# Altium integrated library Xilinx XC4000.IntLib: 294 symbols (part 11 of 18)
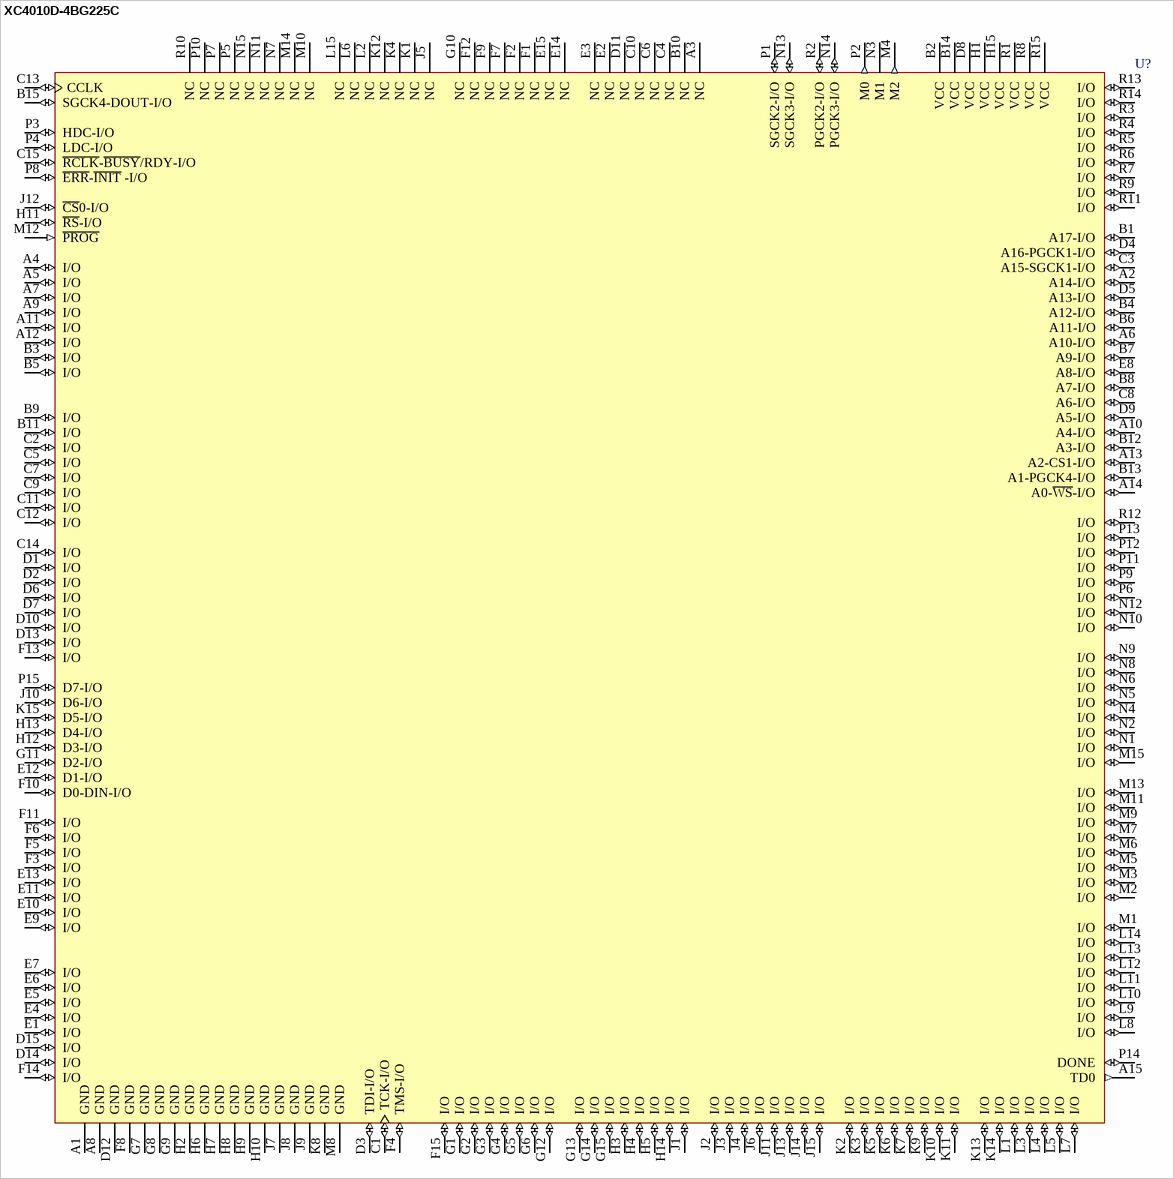
[diagram p239: symbol XC4010D-4BG225C]

## XC4010D-4BG225C
designator U?
Logic Cell Array, with 160 I/O Pins, 225-Pin BGA, Commercial Grade; PackageDocument: ver1.1, Apr-2001; Published: 8-Jun-2000; LatestRevisionDate: 17-Jul-2002; LatestRevisionNote: Re-released for DXP Platform.; DatasheetDocument: 1994; PackageReference: BG225; Publisher: Altium Limited
footprint BG225 (225-Ball Plastic Ball Grid Array (BG225))
pins: A1 GND (power), A2 A14-I/O (io), A3 NC, A4 I/O (io), A5 I/O (io), A6 A10-I/O (io), A7 I/O (io), A8 GND (power), A9 I/O (io), A10 A4-I/O (io), A11 I/O (io), A12 I/O (io), A13 A2-CS1-I/O (io), A14 A0-~{WS}-I/O (io), A15 TD0 (out), B1 A17-I/O (io), B2 VCC (power), B3 I/O (io), B4 A12-I/O (io), B5 I/O (io), B6 A11-I/O (io), B7 A9-I/O (io), B8 A7-I/O (io), B9 I/O (io), B10 NC, B11 I/O (io), B12 A3-I/O (io), B13 A1-PGCK4-I/O (io), B14 VCC (power), B15 SGCK4-DOUT-I/O (io), C1 TCK-I/O (io), C2 I/O (io), C3 A15-SGCK1-I/O (io), C4 NC, C5 I/O (io), C6 NC, C7 I/O (io), C8 A6-I/O (io), C9 I/O (io), C10 NC, C11 I/O (io), C12 I/O (io), C13 CCLK (io), C14 I/O (io), C15 ~{RCLK}-~{BUSY}/RDY-I/O (io), D1 I/O (io), D2 I/O (io), D3 TDI-I/O (io), D4 A16-PGCK1-I/O (io), D5 A13-I/O (io), D6 I/O (io), D7 I/O (io), D8 VCC (power), D9 A5-I/O (io), D10 I/O (io), D11 NC, D12 GND (power), D13 I/O (io), D14 I/O (io), D15 I/O (io), E1 I/O (io), E2 NC, E3 NC, E4 I/O (io), E5 I/O (io), E6 I/O (io), E7 I/O (io), E8 A8-I/O (io), E9 I/O (io), E10 I/O (io), E11 I/O (io), E12 D1-I/O (io), E13 I/O (io), E14 NC, E15 NC, F1 NC, F2 NC, F3 I/O (io), F4 TMS-I/O (io), F5 I/O (io), F6 I/O (io), F7 NC, F8 GND (power), F9 NC, F10 D0-DIN-I/O (io), F11 I/O (io), F12 NC, F13 I/O (io), F14 I/O (io), F15 I/O (io), G1 I/O (io), G2 I/O (io), G3 I/O (io), G4 I/O (io), G5 I/O (io), G6 I/O (io), G7 GND (power), G8 GND (power), G9 GND (power), G10 NC, G11 D2-I/O (io), G12 I/O (io), G13 I/O (io), G14 I/O (io), G15 I/O (io), H1 VCC (power), H2 GND (power), H3 I/O (io), H4 I/O (io), H5 I/O (io), H6 GND (power), H7 GND (power), H8 GND (power), H9 GND (power), H10 GND (power), H11 ~{RS}-I/O (io), H12 D3-I/O (io), H13 D4-I/O (io), H14 I/O (io), H15 VCC (power), J1 I/O (io), J2 I/O (io), J3 I/O (io), J4 I/O (io), J5 NC, J6 I/O (io), J7 GND (power), J8 GND (power), J9 GND (power), J10 D6-I/O (io), J11 I/O (io), J12 ~{CS}0-I/O (io), J13 I/O (io), J14 I/O (io), J15 I/O (io), K1 NC, K2 I/O (io), K3 I/O (io), K4 NC, K5 I/O (io), K6 I/O (io), K7 I/O (io), K8 GND (power), K9 I/O (io), K10 I/O (io), K11 I/O (io), K12 NC, K13 I/O (io), K14 I/O (io), K15 D5-I/O (io), L1 I/O (io), L2 NC, L3 I/O (io), L4 I/O (io), L5 I/O (io), L6 NC, L7 I/O (io), L8 I/O (io), L9 I/O (io), L10 I/O (io), L11 I/O (io), L12 I/O (io), L13 I/O (io), L14 I/O (io), L15 NC, M1 I/O (io), M2 I/O (io), M3 I/O (io), M4 M2 (out), M5 I/O (io), M6 I/O (io), M7 I/O (io), M8 GND (power), M9 I/O (io), M10 NC, M11 I/O (io), M12 ~{PROG} (in), M13 I/O (io), M14 NC, M15 I/O (io), N1 I/O (io), N2 I/O (io), N3 M1 (hiz), N4 I/O (io), N5 I/O (io), N6 I/O (io), N7 NC, N8 I/O (io), N9 I/O (io), N10 I/O (io), N11 NC, N12 I/O (io), N13 SGCK3-I/O (io), N14 PGCK3-I/O (io), N15 NC, P1 SGCK2-I/O (io), P2 M0 (out), P3 HDC-I/O (io), P4 LDC-I/O (io), P5 NC, P6 I/O (io), P7 NC, P8 ~{ERR}-~{INIT} -I/O (io), P9 I/O (io), P10 NC, P11 I/O (io), P12 I/O (io), P13 I/O (io), P14 DONE (io), P15 D7-I/O (io), R1 VCC (power), R2 PGCK2-I/O (io), R3 I/O (io), R4 I/O (io), R5 I/O (io), R6 I/O (io), R7 I/O (io), R8 VCC (power), R9 I/O (io), R10 NC, R11 I/O (io), R12 I/O (io), R13 I/O (io), R14 I/O (io), R15 VCC (power)

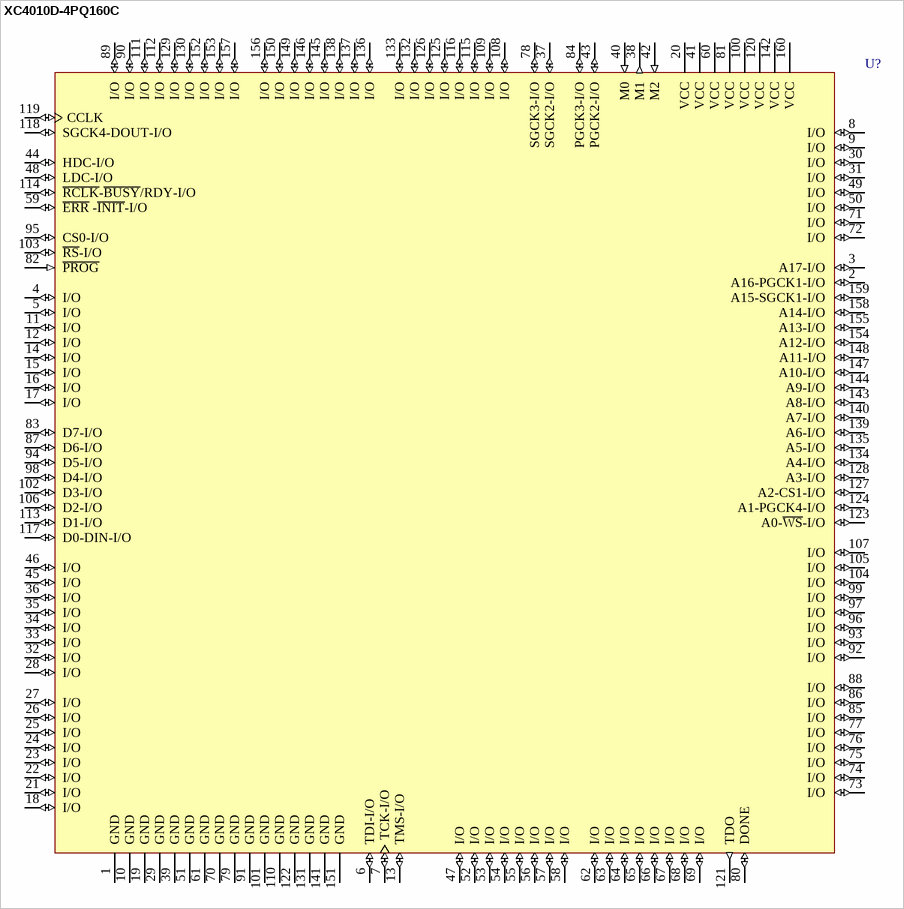
[diagram p131: symbol XC4010D-4PQ160C]

## XC4010D-4PQ160C
designator U?
Logic Cell Array, with 129 I/O Pins, 160-Pin PQFP, Commercial Grade; PackageDocument: ver1.1, Oct-2002; Published: 8-Jun-2000; LatestRevisionDate: 17-Jul-2002; LatestRevisionNote: PCB footprint, 'QFP28x28-G160/D28N' replaced; Re-released for DXP Platform.; DatasheetDocument: 1994; PackageReference: PQ160; Publisher: Altium Limited; Code_JEDEC: MS-022-DD1
footprint PQ160 (160-Pin Plastic Quad Flat Pack (PQ160))
pins: 1 GND (power), 2 A16-PGCK1-I/O (io), 3 A17-I/O (io), 4 I/O (io), 5 I/O (io), 6 TDI-I/O (io), 7 TCK-I/O (io), 8 I/O (io), 9 I/O (io), 10 GND (power), 11 I/O (io), 12 I/O (io), 13 TMS-I/O (io), 14 I/O (io), 15 I/O (io), 16 I/O (io), 17 I/O (io), 18 I/O (io), 19 GND (power), 20 VCC (power), 21 I/O (io), 22 I/O (io), 23 I/O (io), 24 I/O (io), 25 I/O (io), 26 I/O (io), 27 I/O (io), 28 I/O (io), 29 GND (power), 30 I/O (io), 31 I/O (io), 32 I/O (io), 33 I/O (io), 34 I/O (io), 35 I/O (io), 36 I/O (io), 37 SGCK2-I/O (io), 38 M1 (out), 39 GND (power), 40 M0 (in), 41 VCC (power), 42 M2 (in), 43 PGCK2-I/O (io), 44 HDC-I/O (io), 45 I/O (io), 46 I/O (io), 47 I/O (io), 48 LDC-I/O (io), 49 I/O (io), 50 I/O (io), 51 GND (power), 52 I/O (io), 53 I/O (io), 54 I/O (io), 55 I/O (io), 56 I/O (io), 57 I/O (io), 58 I/O (io), 59 ~{ERR} -~{INIT}-I/O (io), 60 VCC (power), 61 GND (power), 62 I/O (io), 63 I/O (io), 64 I/O (io), 65 I/O (io), 66 I/O (io), 67 I/O (io), 68 I/O (io), 69 I/O (io), 70 GND (power), 71 I/O (io), 72 I/O (io), 73 I/O (io), 74 I/O (io), 75 I/O (io), 76 I/O (io), 77 I/O (io), 78 SGCK3-I/O (io), 79 GND (power), 80 DONE (io), 81 VCC (power), 82 ~{PROG} (in), 83 D7-I/O (io), 84 PGCK3-I/O (io), 85 I/O (io), 86 I/O (io), 87 D6-I/O (io), 88 I/O (io), 89 I/O (io), 90 I/O (io), 91 GND (power), 92 I/O (io), 93 I/O (io), 94 D5-I/O (io), 95 CS0-I/O (io), 96 I/O (io), 97 I/O (io), 98 D4-I/O (io), 99 I/O (io), 100 VCC (power), 101 GND (power), 102 D3-I/O (io), 103 ~{RS}-I/O (io), 104 I/O (io), 105 I/O (io), 106 D2-I/O (io), 107 I/O (io), 108 I/O (io), 109 I/O (io), 110 GND (power), 111 I/O (io), 112 I/O (io), 113 D1-I/O (io), 114 ~{RCLK}-~{BUSY}/RDY-I/O (io), 115 I/O (io), 116 I/O (io), 117 D0-DIN-I/O (io), 118 SGCK4-DOUT-I/O (io), 119 CCLK (io), 120 VCC (power), 121 TDO (out), 122 GND (power), 123 A0-~{WS}-I/O (io), 124 A1-PGCK4-I/O (io), 125 I/O (io), 126 I/O (io), 127 A2-CS1-I/O (io), 128 A3-I/O (io), 129 I/O (io), 130 I/O (io), 131 GND (power), 132 I/O (io), 133 I/O (io), 134 A4-I/O (io), 135 A5-I/O (io), 136 I/O (io), 137 I/O (io), 138 I/O (io), 139 A6-I/O (io), 140 A7-I/O (io), 141 GND (power), 142 VCC (power), 143 A8-I/O (io), 144 A9-I/O (io), 145 I/O (io), 146 I/O (io), 147 A10-I/O (io), 148 A11-I/O (io), 149 I/O (io), 150 I/O (io), 151 GND (power), 152 I/O (io), 153 I/O (io), 154 A12-I/O (io), 155 A13-I/O (io), 156 I/O (io), 157 I/O (io), 158 A14-I/O (io), 159 A15-SGCK1-I/O (io), 160 VCC (power)

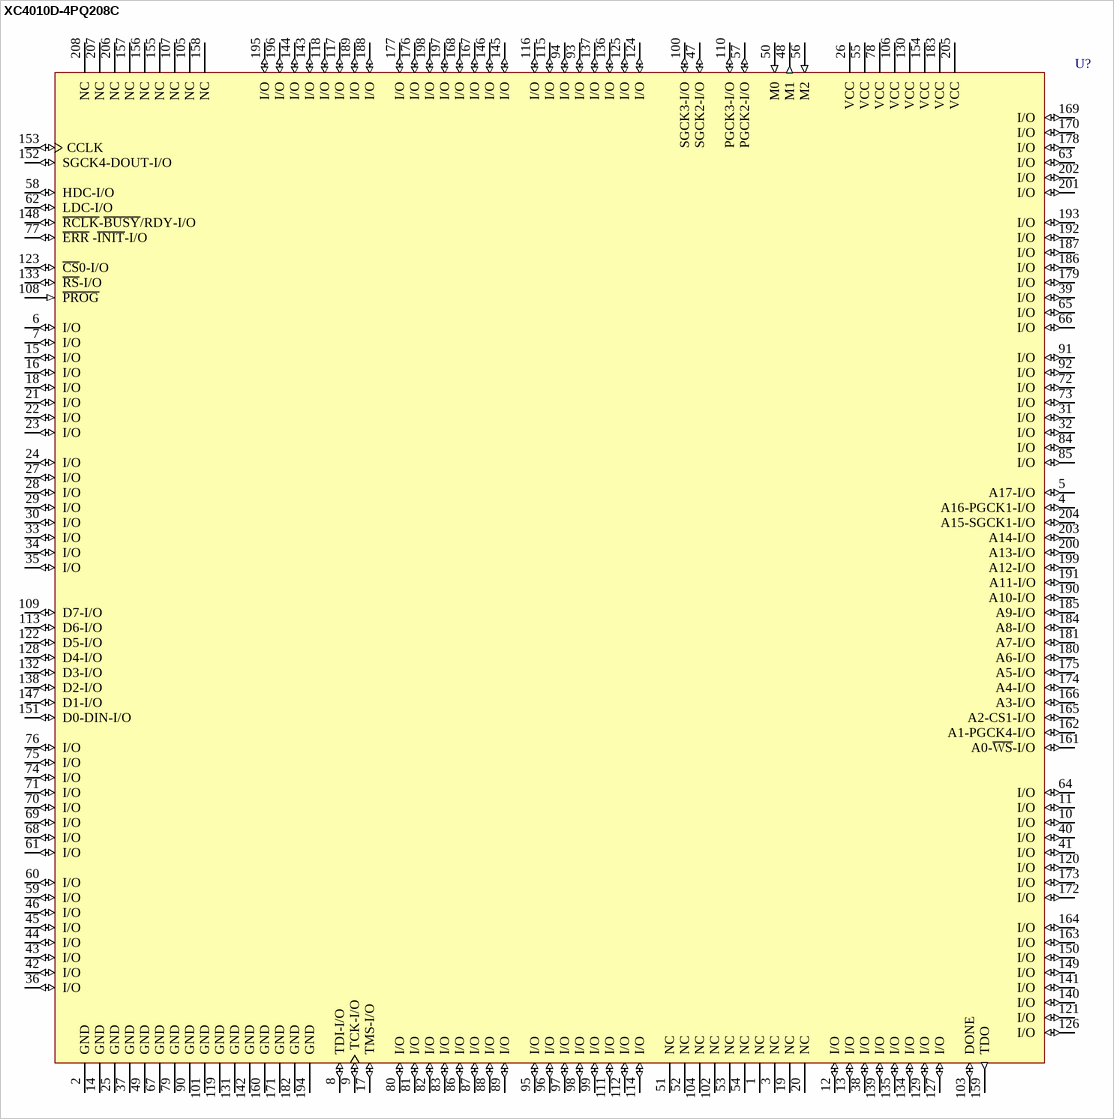
[diagram p132: symbol XC4010D-4PQ208C]

## XC4010D-4PQ208C
designator U?
Logic Cell Array, with 158 I/O Pins, 208-Pin PQFP, Commercial Grade; PackageDocument: ver1.1, Oct-2002; Published: 8-Jun-2000; LatestRevisionDate: 17-Sep-2003; LatestRevisionNote: PCB Footprint dimensions updated; DatasheetDocument: 1994; PackageReference: PQ208; Publisher: Altium Limited; Code_JEDEC: MS-029-FA-1
footprint PQ208 (208-Pin Plastic Quad Flat Pack (PQ208))
pins: 1 NC, 2 GND (power), 3 NC, 4 A16-PGCK1-I/O (io), 5 A17-I/O (io), 6 I/O (io), 7 I/O (io), 8 TDI-I/O (io), 9 TCK-I/O (io), 10 I/O (io), 11 I/O (io), 12 I/O (io), 13 I/O (io), 14 GND (power), 15 I/O (io), 16 I/O (io), 17 TMS-I/O (io), 18 I/O (io), 19 NC, 20 NC, 21 I/O (io), 22 I/O (io), 23 I/O (io), 24 I/O (io), 25 GND (power), 26 VCC (power), 27 I/O (io), 28 I/O (io), 29 I/O (io), 30 I/O (io), 31 I/O (io), 32 I/O (io), 33 I/O (io), 34 I/O (io), 35 I/O (io), 36 I/O (io), 37 GND (power), 38 I/O (io), 39 I/O (io), 40 I/O (io), 41 I/O (io), 42 I/O (io), 43 I/O (io), 44 I/O (io), 45 I/O (io), 46 I/O (io), 47 SGCK2-I/O (io), 48 M1 (out), 49 GND (power), 50 M0 (in), 51 NC, 52 NC, 53 NC, 54 NC, 55 VCC (power), 56 M2 (in), 57 PGCK2-I/O (io), 58 HDC-I/O (io), 59 I/O (io), 60 I/O (io), 61 I/O (io), 62 LDC-I/O (io), 63 I/O (io), 64 I/O (io), 65 I/O (io), 66 I/O (io), 67 GND (power), 68 I/O (io), 69 I/O (io), 70 I/O (io), 71 I/O (io), 72 I/O (io), 73 I/O (io), 74 I/O (io), 75 I/O (io), 76 I/O (io), 77 ~{ERR} -~{INIT}-I/O (io), 78 VCC (power), 79 GND (power), 80 I/O (io), 81 I/O (io), 82 I/O (io), 83 I/O (io), 84 I/O (io), 85 I/O (io), 86 I/O (io), 87 I/O (io), 88 I/O (io), 89 I/O (io), 90 GND (power), 91 I/O (io), 92 I/O (io), 93 I/O (io), 94 I/O (io), 95 I/O (io), 96 I/O (io), 97 I/O (io), 98 I/O (io), 99 I/O (io), 100 SGCK3-I/O (io), 101 GND (power), 102 NC, 103 DONE (io), 104 NC, 105 NC, 106 VCC (power), 107 NC, 108 ~{PROG} (in), 109 D7-I/O (io), 110 PGCK3-I/O (io), 111 I/O (io), 112 I/O (io), 113 D6-I/O (io), 114 I/O (io), 115 I/O (io), 116 I/O (io), 117 I/O (io), 118 I/O (io), 119 GND (power), 120 I/O (io), 121 I/O (io), 122 D5-I/O (io), 123 ~{CS}0-I/O (io), 124 I/O (io), 125 I/O (io), 126 I/O (io), 127 I/O (io), 128 D4-I/O (io), 129 I/O (io), 130 VCC (power), 131 GND (power), 132 D3-I/O (io), 133 ~{RS}-I/O (io), 134 I/O (io), 135 I/O (io), 136 I/O (io), 137 I/O (io), 138 D2-I/O (io), 139 I/O (io), 140 I/O (io), 141 I/O (io), 142 GND (power), 143 I/O (io), 144 I/O (io), 145 I/O (io), 146 I/O (io), 147 D1-I/O (io), 148 ~{RCLK}-~{BUSY}/RDY-I/O (io), 149 I/O (io), 150 I/O (io), 151 D0-DIN-I/O (io), 152 SGCK4-DOUT-I/O (io), 153 CCLK (io), 154 VCC (power), 155 NC, 156 NC, 157 NC, 158 NC, 159 TDO (out), 160 GND (power), 161 A0-~{WS}-I/O (io), 162 A1-PGCK4-I/O (io), 163 I/O (io), 164 I/O (io), 165 A2-CS1-I/O (io), 166 A3-I/O (io), 167 I/O (io), 168 I/O (io), 169 I/O (io), 170 I/O (io), 171 GND (power), 172 I/O (io), 173 I/O (io), 174 A4-I/O (io), 175 A5-I/O (io), 176 I/O (io), 177 I/O (io), 178 I/O (io), 179 I/O (io), 180 A6-I/O (io), 181 A7-I/O (io), 182 GND (power), 183 VCC (power), 184 A8-I/O (io), 185 A9-I/O (io), 186 I/O (io), 187 I/O (io), 188 I/O (io), 189 I/O (io), 190 A10-I/O (io), 191 A11-I/O (io), 192 I/O (io), 193 I/O (io), 194 GND (power), 195 I/O (io), 196 I/O (io), 197 I/O (io), 198 I/O (io), 199 A12-I/O (io), 200 A13-I/O (io), 201 I/O (io), 202 I/O (io), 203 A14-I/O (io), 204 A15-SGCK1-I/O (io), 205 VCC (power), 206 NC, 207 NC, 208 NC

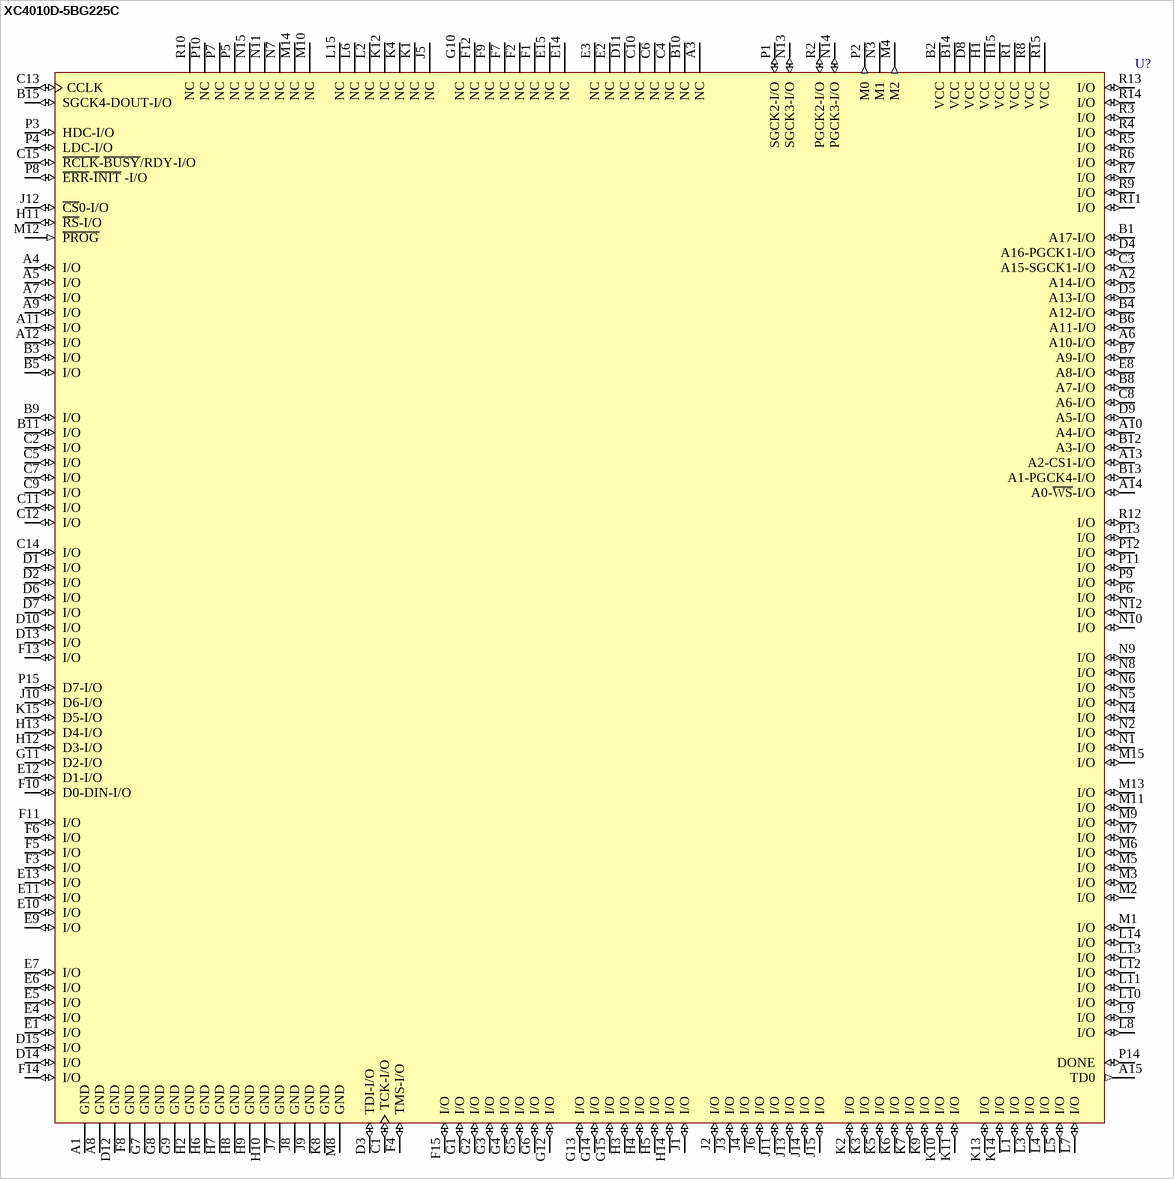
[diagram p133: symbol XC4010D-5BG225C]

## XC4010D-5BG225C
designator U?
Logic Cell Array, with 160 I/O Pins, 225-Pin BGA, Commercial Grade; PackageDocument: ver1.1, Apr-2001; Published: 8-Jun-2000; LatestRevisionDate: 17-Jul-2002; LatestRevisionNote: Re-released for DXP Platform.; DatasheetDocument: 1994; PackageReference: BG225; Publisher: Altium Limited
footprint BG225 (225-Ball Plastic Ball Grid Array (BG225))
pins: A1 GND (power), A2 A14-I/O (io), A3 NC, A4 I/O (io), A5 I/O (io), A6 A10-I/O (io), A7 I/O (io), A8 GND (power), A9 I/O (io), A10 A4-I/O (io), A11 I/O (io), A12 I/O (io), A13 A2-CS1-I/O (io), A14 A0-~{WS}-I/O (io), A15 TD0 (out), B1 A17-I/O (io), B2 VCC (power), B3 I/O (io), B4 A12-I/O (io), B5 I/O (io), B6 A11-I/O (io), B7 A9-I/O (io), B8 A7-I/O (io), B9 I/O (io), B10 NC, B11 I/O (io), B12 A3-I/O (io), B13 A1-PGCK4-I/O (io), B14 VCC (power), B15 SGCK4-DOUT-I/O (io), C1 TCK-I/O (io), C2 I/O (io), C3 A15-SGCK1-I/O (io), C4 NC, C5 I/O (io), C6 NC, C7 I/O (io), C8 A6-I/O (io), C9 I/O (io), C10 NC, C11 I/O (io), C12 I/O (io), C13 CCLK (io), C14 I/O (io), C15 ~{RCLK}-~{BUSY}/RDY-I/O (io), D1 I/O (io), D2 I/O (io), D3 TDI-I/O (io), D4 A16-PGCK1-I/O (io), D5 A13-I/O (io), D6 I/O (io), D7 I/O (io), D8 VCC (power), D9 A5-I/O (io), D10 I/O (io), D11 NC, D12 GND (power), D13 I/O (io), D14 I/O (io), D15 I/O (io), E1 I/O (io), E2 NC, E3 NC, E4 I/O (io), E5 I/O (io), E6 I/O (io), E7 I/O (io), E8 A8-I/O (io), E9 I/O (io), E10 I/O (io), E11 I/O (io), E12 D1-I/O (io), E13 I/O (io), E14 NC, E15 NC, F1 NC, F2 NC, F3 I/O (io), F4 TMS-I/O (io), F5 I/O (io), F6 I/O (io), F7 NC, F8 GND (power), F9 NC, F10 D0-DIN-I/O (io), F11 I/O (io), F12 NC, F13 I/O (io), F14 I/O (io), F15 I/O (io), G1 I/O (io), G2 I/O (io), G3 I/O (io), G4 I/O (io), G5 I/O (io), G6 I/O (io), G7 GND (power), G8 GND (power), G9 GND (power), G10 NC, G11 D2-I/O (io), G12 I/O (io), G13 I/O (io), G14 I/O (io), G15 I/O (io), H1 VCC (power), H2 GND (power), H3 I/O (io), H4 I/O (io), H5 I/O (io), H6 GND (power), H7 GND (power), H8 GND (power), H9 GND (power), H10 GND (power), H11 ~{RS}-I/O (io), H12 D3-I/O (io), H13 D4-I/O (io), H14 I/O (io), H15 VCC (power), J1 I/O (io), J2 I/O (io), J3 I/O (io), J4 I/O (io), J5 NC, J6 I/O (io), J7 GND (power), J8 GND (power), J9 GND (power), J10 D6-I/O (io), J11 I/O (io), J12 ~{CS}0-I/O (io), J13 I/O (io), J14 I/O (io), J15 I/O (io), K1 NC, K2 I/O (io), K3 I/O (io), K4 NC, K5 I/O (io), K6 I/O (io), K7 I/O (io), K8 GND (power), K9 I/O (io), K10 I/O (io), K11 I/O (io), K12 NC, K13 I/O (io), K14 I/O (io), K15 D5-I/O (io), L1 I/O (io), L2 NC, L3 I/O (io), L4 I/O (io), L5 I/O (io), L6 NC, L7 I/O (io), L8 I/O (io), L9 I/O (io), L10 I/O (io), L11 I/O (io), L12 I/O (io), L13 I/O (io), L14 I/O (io), L15 NC, M1 I/O (io), M2 I/O (io), M3 I/O (io), M4 M2 (out), M5 I/O (io), M6 I/O (io), M7 I/O (io), M8 GND (power), M9 I/O (io), M10 NC, M11 I/O (io), M12 ~{PROG} (in), M13 I/O (io), M14 NC, M15 I/O (io), N1 I/O (io), N2 I/O (io), N3 M1 (hiz), N4 I/O (io), N5 I/O (io), N6 I/O (io), N7 NC, N8 I/O (io), N9 I/O (io), N10 I/O (io), N11 NC, N12 I/O (io), N13 SGCK3-I/O (io), N14 PGCK3-I/O (io), N15 NC, P1 SGCK2-I/O (io), P2 M0 (out), P3 HDC-I/O (io), P4 LDC-I/O (io), P5 NC, P6 I/O (io), P7 NC, P8 ~{ERR}-~{INIT} -I/O (io), P9 I/O (io), P10 NC, P11 I/O (io), P12 I/O (io), P13 I/O (io), P14 DONE (io), P15 D7-I/O (io), R1 VCC (power), R2 PGCK2-I/O (io), R3 I/O (io), R4 I/O (io), R5 I/O (io), R6 I/O (io), R7 I/O (io), R8 VCC (power), R9 I/O (io), R10 NC, R11 I/O (io), R12 I/O (io), R13 I/O (io), R14 I/O (io), R15 VCC (power)

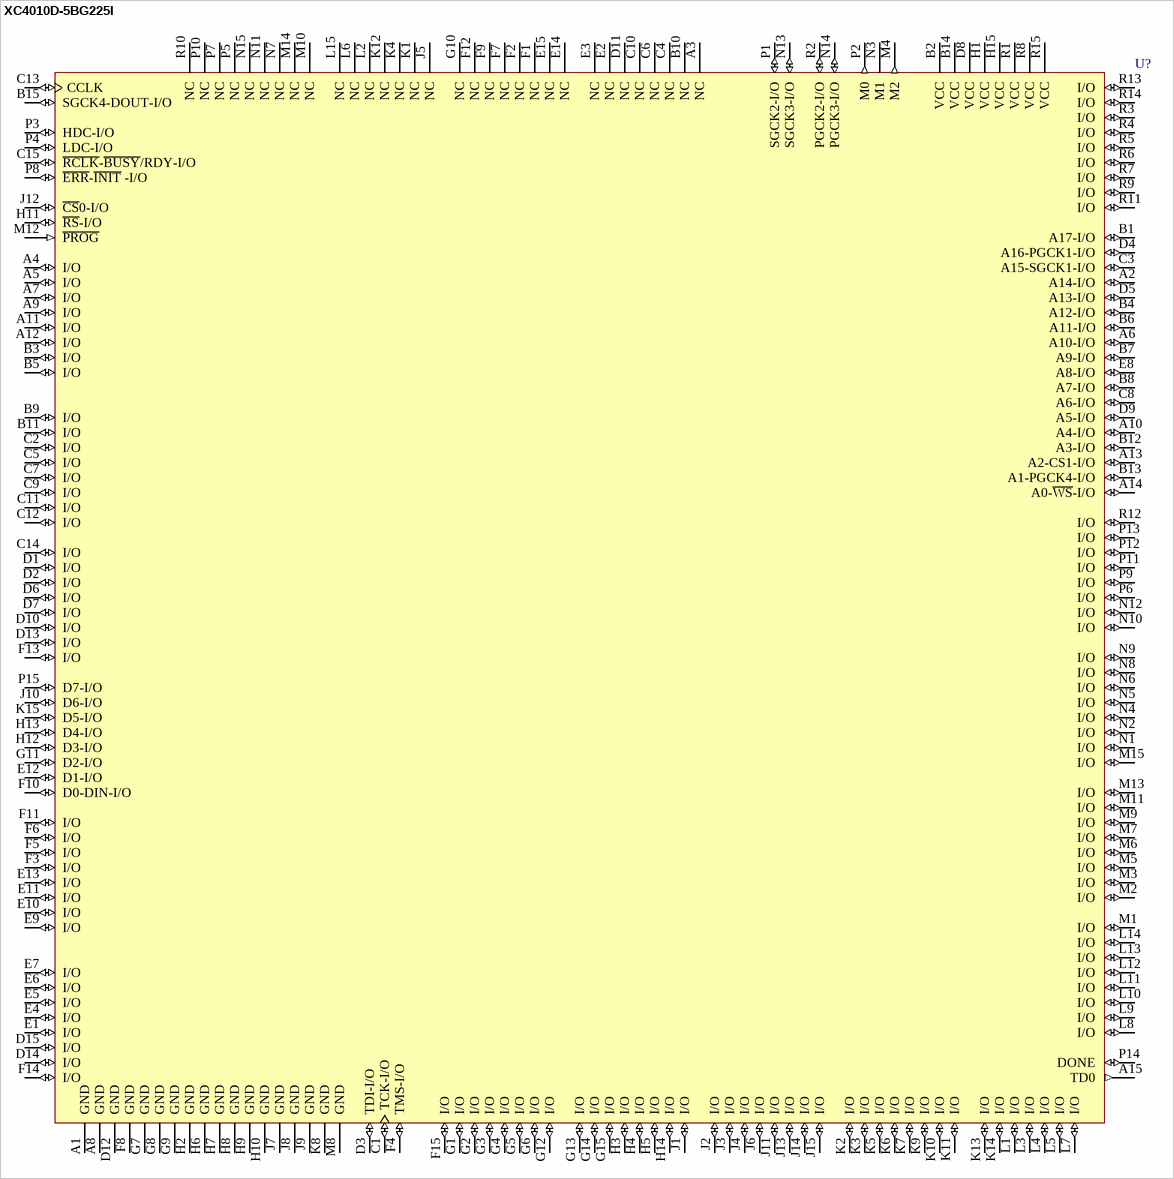
[diagram p134: symbol XC4010D-5BG225I]

## XC4010D-5BG225I
designator U?
Logic Cell Array, with 160 I/O Pins, 225-Pin BGA, Industrial Grade; PackageDocument: ver1.1, Apr-2001; Published: 8-Jun-2000; LatestRevisionDate: 17-Jul-2002; LatestRevisionNote: Re-released for DXP Platform.; DatasheetDocument: 1994; PackageReference: BG225; Publisher: Altium Limited
footprint BG225 (225-Ball Plastic Ball Grid Array (BG225))
pins: A1 GND (power), A2 A14-I/O (io), A3 NC, A4 I/O (io), A5 I/O (io), A6 A10-I/O (io), A7 I/O (io), A8 GND (power), A9 I/O (io), A10 A4-I/O (io), A11 I/O (io), A12 I/O (io), A13 A2-CS1-I/O (io), A14 A0-~{WS}-I/O (io), A15 TD0 (out), B1 A17-I/O (io), B2 VCC (power), B3 I/O (io), B4 A12-I/O (io), B5 I/O (io), B6 A11-I/O (io), B7 A9-I/O (io), B8 A7-I/O (io), B9 I/O (io), B10 NC, B11 I/O (io), B12 A3-I/O (io), B13 A1-PGCK4-I/O (io), B14 VCC (power), B15 SGCK4-DOUT-I/O (io), C1 TCK-I/O (io), C2 I/O (io), C3 A15-SGCK1-I/O (io), C4 NC, C5 I/O (io), C6 NC, C7 I/O (io), C8 A6-I/O (io), C9 I/O (io), C10 NC, C11 I/O (io), C12 I/O (io), C13 CCLK (io), C14 I/O (io), C15 ~{RCLK}-~{BUSY}/RDY-I/O (io), D1 I/O (io), D2 I/O (io), D3 TDI-I/O (io), D4 A16-PGCK1-I/O (io), D5 A13-I/O (io), D6 I/O (io), D7 I/O (io), D8 VCC (power), D9 A5-I/O (io), D10 I/O (io), D11 NC, D12 GND (power), D13 I/O (io), D14 I/O (io), D15 I/O (io), E1 I/O (io), E2 NC, E3 NC, E4 I/O (io), E5 I/O (io), E6 I/O (io), E7 I/O (io), E8 A8-I/O (io), E9 I/O (io), E10 I/O (io), E11 I/O (io), E12 D1-I/O (io), E13 I/O (io), E14 NC, E15 NC, F1 NC, F2 NC, F3 I/O (io), F4 TMS-I/O (io), F5 I/O (io), F6 I/O (io), F7 NC, F8 GND (power), F9 NC, F10 D0-DIN-I/O (io), F11 I/O (io), F12 NC, F13 I/O (io), F14 I/O (io), F15 I/O (io), G1 I/O (io), G2 I/O (io), G3 I/O (io), G4 I/O (io), G5 I/O (io), G6 I/O (io), G7 GND (power), G8 GND (power), G9 GND (power), G10 NC, G11 D2-I/O (io), G12 I/O (io), G13 I/O (io), G14 I/O (io), G15 I/O (io), H1 VCC (power), H2 GND (power), H3 I/O (io), H4 I/O (io), H5 I/O (io), H6 GND (power), H7 GND (power), H8 GND (power), H9 GND (power), H10 GND (power), H11 ~{RS}-I/O (io), H12 D3-I/O (io), H13 D4-I/O (io), H14 I/O (io), H15 VCC (power), J1 I/O (io), J2 I/O (io), J3 I/O (io), J4 I/O (io), J5 NC, J6 I/O (io), J7 GND (power), J8 GND (power), J9 GND (power), J10 D6-I/O (io), J11 I/O (io), J12 ~{CS}0-I/O (io), J13 I/O (io), J14 I/O (io), J15 I/O (io), K1 NC, K2 I/O (io), K3 I/O (io), K4 NC, K5 I/O (io), K6 I/O (io), K7 I/O (io), K8 GND (power), K9 I/O (io), K10 I/O (io), K11 I/O (io), K12 NC, K13 I/O (io), K14 I/O (io), K15 D5-I/O (io), L1 I/O (io), L2 NC, L3 I/O (io), L4 I/O (io), L5 I/O (io), L6 NC, L7 I/O (io), L8 I/O (io), L9 I/O (io), L10 I/O (io), L11 I/O (io), L12 I/O (io), L13 I/O (io), L14 I/O (io), L15 NC, M1 I/O (io), M2 I/O (io), M3 I/O (io), M4 M2 (out), M5 I/O (io), M6 I/O (io), M7 I/O (io), M8 GND (power), M9 I/O (io), M10 NC, M11 I/O (io), M12 ~{PROG} (in), M13 I/O (io), M14 NC, M15 I/O (io), N1 I/O (io), N2 I/O (io), N3 M1 (hiz), N4 I/O (io), N5 I/O (io), N6 I/O (io), N7 NC, N8 I/O (io), N9 I/O (io), N10 I/O (io), N11 NC, N12 I/O (io), N13 SGCK3-I/O (io), N14 PGCK3-I/O (io), N15 NC, P1 SGCK2-I/O (io), P2 M0 (out), P3 HDC-I/O (io), P4 LDC-I/O (io), P5 NC, P6 I/O (io), P7 NC, P8 ~{ERR}-~{INIT} -I/O (io), P9 I/O (io), P10 NC, P11 I/O (io), P12 I/O (io), P13 I/O (io), P14 DONE (io), P15 D7-I/O (io), R1 VCC (power), R2 PGCK2-I/O (io), R3 I/O (io), R4 I/O (io), R5 I/O (io), R6 I/O (io), R7 I/O (io), R8 VCC (power), R9 I/O (io), R10 NC, R11 I/O (io), R12 I/O (io), R13 I/O (io), R14 I/O (io), R15 VCC (power)

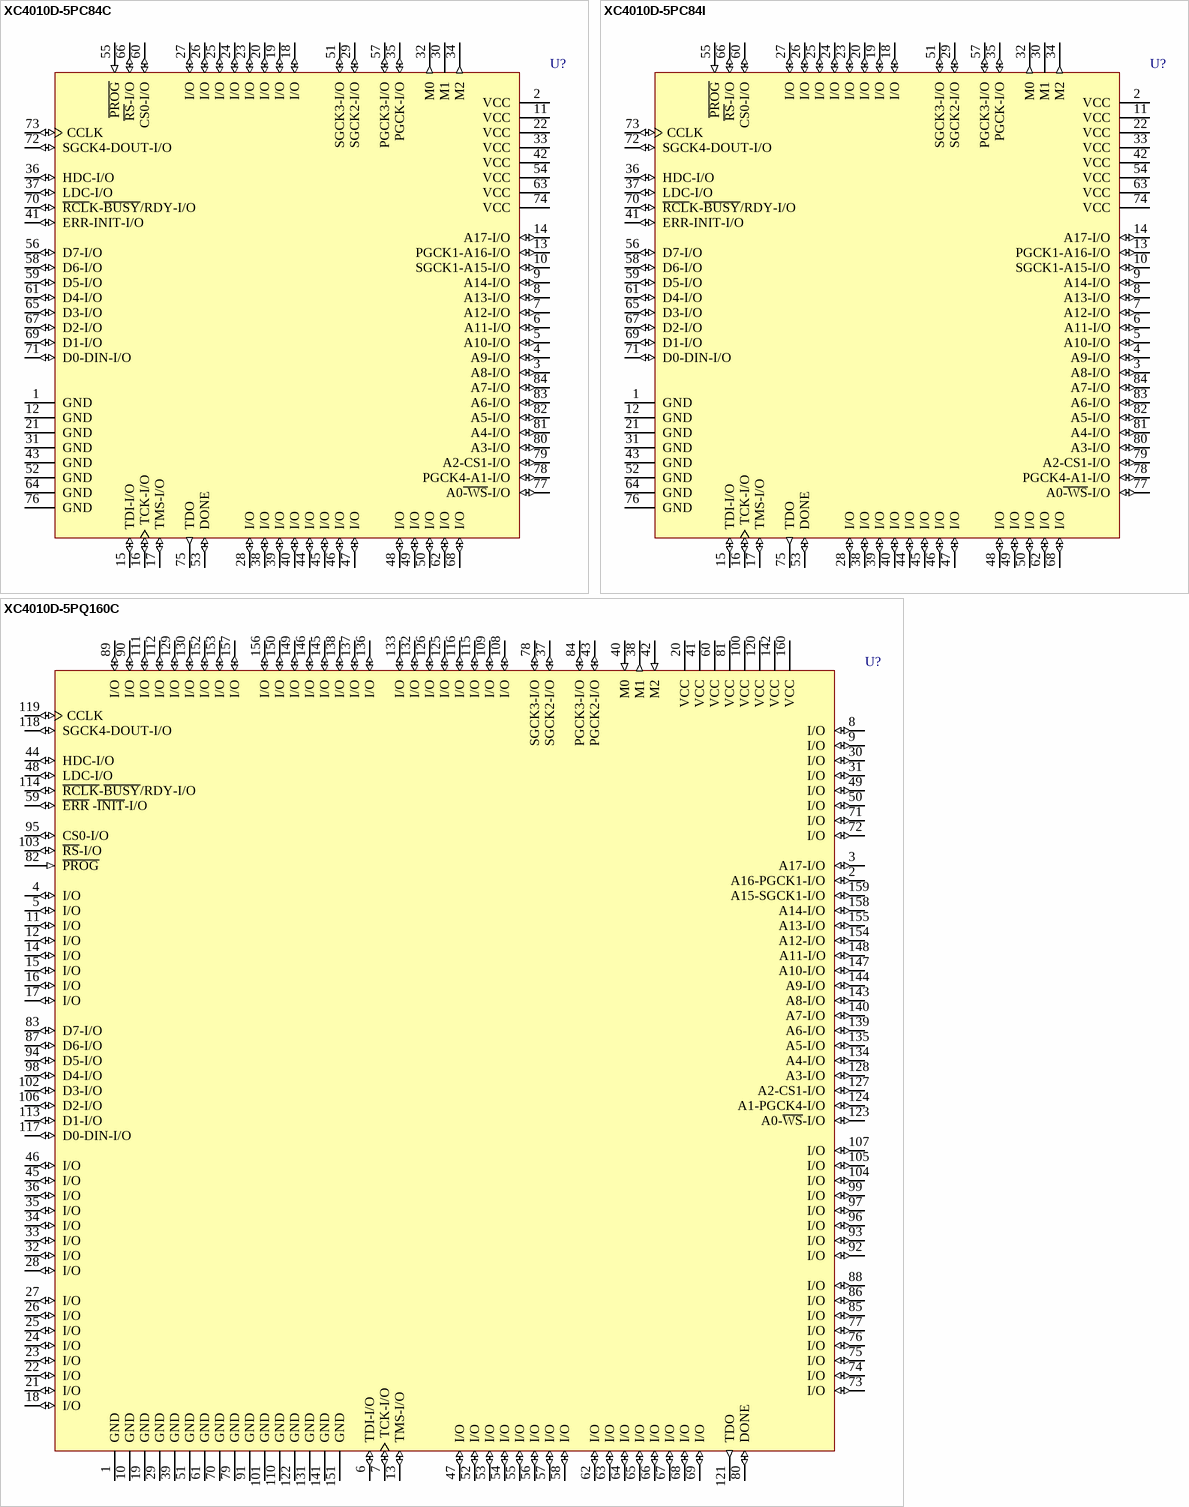
[diagram p135: symbols XC4010D-5PC84C to XC4010D-5PQ160C]

## XC4010D-5PC84C
designator U?
Logic Cell Array, with 61 I/O Pins, 84-Pin PLCC, Commercial Grade; PackageDocument: ver1.0, Jun-2000; Published: 8-Jun-2000; LatestRevisionDate: 17-Sep-2003; LatestRevisionNote: PCB Footprint dimensions updated; DatasheetDocument: 1994; PackageReference: PC84; Publisher: Altium Limited; Code_JEDEC: MS-047; Code_IPC: PLCC-84
footprint PC84 (84-Pin Plastic Leaded Chip Carrier (PC84))
pins: 1 GND (power), 2 VCC (power), 3 A8-I/O (io), 4 A9-I/O (io), 5 A10-I/O (io), 6 A11-I/O (io), 7 A12-I/O (io), 8 A13-I/O (io), 9 A14-I/O (io), 10 SGCK1-A15-I/O (io), 11 VCC (power), 12 GND (power), 13 PGCK1-A16-I/O (io), 14 A17-I/O (io), 15 TDI-I/O (io), 16 TCK-I/O (io), 17 TMS-I/O (io), 18 I/O (io), 19 I/O (io), 20 I/O (io), 21 GND (power), 22 VCC (power), 23 I/O (io), 24 I/O (io), 25 I/O (io), 26 I/O (io), 27 I/O (io), 28 I/O (io), 29 SGCK2-I/O (io), 30 M1 (hiz), 31 GND (power), 32 M0 (out), 33 VCC (power), 34 M2 (out), 35 PGCK-I/O (io), 36 HDC-I/O (io), 37 LDC-I/O (io), 38 I/O (io), 39 I/O (io), 40 I/O (io), 41 ERR-INIT-I/O (io), 42 VCC (power), 43 GND (power), 44 I/O (io), 45 I/O (io), 46 I/O (io), 47 I/O (io), 48 I/O (io), 49 I/O (io), 50 I/O (io), 51 SGCK3-I/O (io), 52 GND (power), 53 DONE (io), 54 VCC (power), 55 ~{PROG} (in), 56 D7-I/O (io), 57 PGCK3-I/O (io), 58 D6-I/O (io), 59 D5-I/O (io), 60 CS0-I/O (io), 61 D4-I/O (io), 62 I/O (io), 63 VCC (power), 64 GND (power), 65 D3-I/O (io), 66 ~{RS}-I/O (io), 67 D2-I/O (io), 68 I/O (io), 69 D1-I/O (io), 70 ~{RCL}K-~{BUSY}/RDY-I/O (io), 71 D0-DIN-I/O (io), 72 SGCK4-DOUT-I/O (io), 73 CCLK (io), 74 VCC (power), 75 TDO (out), 76 GND (power), 77 A0~{-WS}-I/O (io), 78 PGCK4-A1-I/O (io), 79 A2-CS1-I/O (io), 80 A3-I/O (io), 81 A4-I/O (io), 82 A5-I/O (io), 83 A6-I/O (io), 84 A7-I/O (io)

## XC4010D-5PC84I
designator U?
Logic Cell Array, with 61 I/O Pins, 84-Pin PLCC, Industrial Grade; PackageDocument: ver1.0, Jun-2000; Published: 8-Jun-2000; LatestRevisionDate: 17-Sep-2003; LatestRevisionNote: PCB Footprint dimensions updated; DatasheetDocument: 1994; PackageReference: PC84; Publisher: Altium Limited; Code_JEDEC: MS-047; Code_IPC: PLCC-84
footprint PC84 (84-Pin Plastic Leaded Chip Carrier (PC84))
pins: 1 GND (power), 2 VCC (power), 3 A8-I/O (io), 4 A9-I/O (io), 5 A10-I/O (io), 6 A11-I/O (io), 7 A12-I/O (io), 8 A13-I/O (io), 9 A14-I/O (io), 10 SGCK1-A15-I/O (io), 11 VCC (power), 12 GND (power), 13 PGCK1-A16-I/O (io), 14 A17-I/O (io), 15 TDI-I/O (io), 16 TCK-I/O (io), 17 TMS-I/O (io), 18 I/O (io), 19 I/O (io), 20 I/O (io), 21 GND (power), 22 VCC (power), 23 I/O (io), 24 I/O (io), 25 I/O (io), 26 I/O (io), 27 I/O (io), 28 I/O (io), 29 SGCK2-I/O (io), 30 M1 (hiz), 31 GND (power), 32 M0 (out), 33 VCC (power), 34 M2 (out), 35 PGCK-I/O (io), 36 HDC-I/O (io), 37 LDC-I/O (io), 38 I/O (io), 39 I/O (io), 40 I/O (io), 41 ERR-INIT-I/O (io), 42 VCC (power), 43 GND (power), 44 I/O (io), 45 I/O (io), 46 I/O (io), 47 I/O (io), 48 I/O (io), 49 I/O (io), 50 I/O (io), 51 SGCK3-I/O (io), 52 GND (power), 53 DONE (io), 54 VCC (power), 55 ~{PROG} (in), 56 D7-I/O (io), 57 PGCK3-I/O (io), 58 D6-I/O (io), 59 D5-I/O (io), 60 CS0-I/O (io), 61 D4-I/O (io), 62 I/O (io), 63 VCC (power), 64 GND (power), 65 D3-I/O (io), 66 ~{RS}-I/O (io), 67 D2-I/O (io), 68 I/O (io), 69 D1-I/O (io), 70 ~{RCL}K-~{BUSY}/RDY-I/O (io), 71 D0-DIN-I/O (io), 72 SGCK4-DOUT-I/O (io), 73 CCLK (io), 74 VCC (power), 75 TDO (out), 76 GND (power), 77 A0~{-WS}-I/O (io), 78 PGCK4-A1-I/O (io), 79 A2-CS1-I/O (io), 80 A3-I/O (io), 81 A4-I/O (io), 82 A5-I/O (io), 83 A6-I/O (io), 84 A7-I/O (io)

## XC4010D-5PQ160C
designator U?
Logic Cell Array, with 129 I/O Pins, 160-Pin PQFP, Commercial Grade; PackageDocument: ver1.1, Oct-2002; Published: 8-Jun-2000; LatestRevisionDate: 17-Jul-2002; LatestRevisionNote: PCB footprint, 'QFP28x28-G160/D28N' replaced; Re-released for DXP Platform.; DatasheetDocument: 1994; PackageReference: PQ160; Publisher: Altium Limited; Code_JEDEC: MS-022-DD1
footprint PQ160 (160-Pin Plastic Quad Flat Pack (PQ160))
pins: 1 GND (power), 2 A16-PGCK1-I/O (io), 3 A17-I/O (io), 4 I/O (io), 5 I/O (io), 6 TDI-I/O (io), 7 TCK-I/O (io), 8 I/O (io), 9 I/O (io), 10 GND (power), 11 I/O (io), 12 I/O (io), 13 TMS-I/O (io), 14 I/O (io), 15 I/O (io), 16 I/O (io), 17 I/O (io), 18 I/O (io), 19 GND (power), 20 VCC (power), 21 I/O (io), 22 I/O (io), 23 I/O (io), 24 I/O (io), 25 I/O (io), 26 I/O (io), 27 I/O (io), 28 I/O (io), 29 GND (power), 30 I/O (io), 31 I/O (io), 32 I/O (io), 33 I/O (io), 34 I/O (io), 35 I/O (io), 36 I/O (io), 37 SGCK2-I/O (io), 38 M1 (out), 39 GND (power), 40 M0 (in), 41 VCC (power), 42 M2 (in), 43 PGCK2-I/O (io), 44 HDC-I/O (io), 45 I/O (io), 46 I/O (io), 47 I/O (io), 48 LDC-I/O (io), 49 I/O (io), 50 I/O (io), 51 GND (power), 52 I/O (io), 53 I/O (io), 54 I/O (io), 55 I/O (io), 56 I/O (io), 57 I/O (io), 58 I/O (io), 59 ~{ERR} -~{INIT}-I/O (io), 60 VCC (power), 61 GND (power), 62 I/O (io), 63 I/O (io), 64 I/O (io), 65 I/O (io), 66 I/O (io), 67 I/O (io), 68 I/O (io), 69 I/O (io), 70 GND (power), 71 I/O (io), 72 I/O (io), 73 I/O (io), 74 I/O (io), 75 I/O (io), 76 I/O (io), 77 I/O (io), 78 SGCK3-I/O (io), 79 GND (power), 80 DONE (io), 81 VCC (power), 82 ~{PROG} (in), 83 D7-I/O (io), 84 PGCK3-I/O (io), 85 I/O (io), 86 I/O (io), 87 D6-I/O (io), 88 I/O (io), 89 I/O (io), 90 I/O (io), 91 GND (power), 92 I/O (io), 93 I/O (io), 94 D5-I/O (io), 95 CS0-I/O (io), 96 I/O (io), 97 I/O (io), 98 D4-I/O (io), 99 I/O (io), 100 VCC (power), 101 GND (power), 102 D3-I/O (io), 103 ~{RS}-I/O (io), 104 I/O (io), 105 I/O (io), 106 D2-I/O (io), 107 I/O (io), 108 I/O (io), 109 I/O (io), 110 GND (power), 111 I/O (io), 112 I/O (io), 113 D1-I/O (io), 114 ~{RCLK}-~{BUSY}/RDY-I/O (io), 115 I/O (io), 116 I/O (io), 117 D0-DIN-I/O (io), 118 SGCK4-DOUT-I/O (io), 119 CCLK (io), 120 VCC (power), 121 TDO (out), 122 GND (power), 123 A0-~{WS}-I/O (io), 124 A1-PGCK4-I/O (io), 125 I/O (io), 126 I/O (io), 127 A2-CS1-I/O (io), 128 A3-I/O (io), 129 I/O (io), 130 I/O (io), 131 GND (power), 132 I/O (io), 133 I/O (io), 134 A4-I/O (io), 135 A5-I/O (io), 136 I/O (io), 137 I/O (io), 138 I/O (io), 139 A6-I/O (io), 140 A7-I/O (io), 141 GND (power), 142 VCC (power), 143 A8-I/O (io), 144 A9-I/O (io), 145 I/O (io), 146 I/O (io), 147 A10-I/O (io), 148 A11-I/O (io), 149 I/O (io), 150 I/O (io), 151 GND (power), 152 I/O (io), 153 I/O (io), 154 A12-I/O (io), 155 A13-I/O (io), 156 I/O (io), 157 I/O (io), 158 A14-I/O (io), 159 A15-SGCK1-I/O (io), 160 VCC (power)

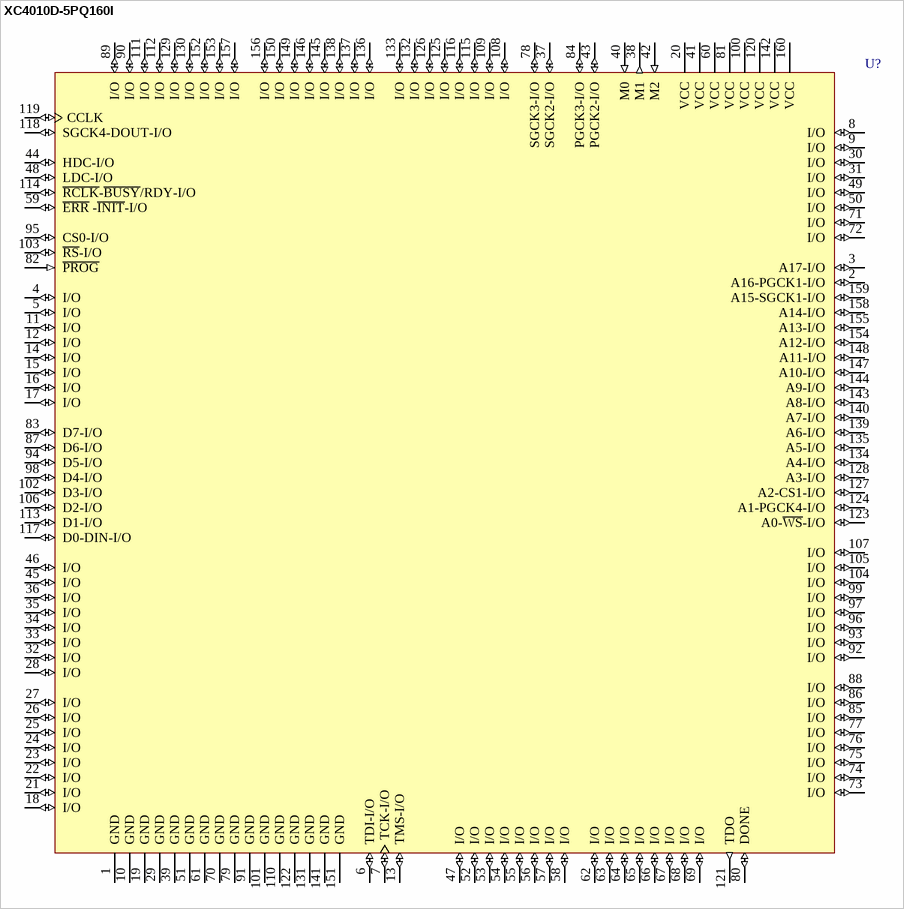
[diagram p136: symbol XC4010D-5PQ160I]

## XC4010D-5PQ160I
designator U?
Logic Cell Array, with 129 I/O Pins, 160-Pin PQFP, Industrial Grade; PackageDocument: ver1.1, Oct-2002; Published: 8-Jun-2000; LatestRevisionDate: 17-Jul-2002; LatestRevisionNote: PCB footprint, 'QFP28x28-G160/D28N' replaced; Re-released for DXP Platform.; DatasheetDocument: 1994; PackageReference: PQ160; Publisher: Altium Limited; Code_JEDEC: MS-022-DD1
footprint PQ160 (160-Pin Plastic Quad Flat Pack (PQ160))
pins: 1 GND (power), 2 A16-PGCK1-I/O (io), 3 A17-I/O (io), 4 I/O (io), 5 I/O (io), 6 TDI-I/O (io), 7 TCK-I/O (io), 8 I/O (io), 9 I/O (io), 10 GND (power), 11 I/O (io), 12 I/O (io), 13 TMS-I/O (io), 14 I/O (io), 15 I/O (io), 16 I/O (io), 17 I/O (io), 18 I/O (io), 19 GND (power), 20 VCC (power), 21 I/O (io), 22 I/O (io), 23 I/O (io), 24 I/O (io), 25 I/O (io), 26 I/O (io), 27 I/O (io), 28 I/O (io), 29 GND (power), 30 I/O (io), 31 I/O (io), 32 I/O (io), 33 I/O (io), 34 I/O (io), 35 I/O (io), 36 I/O (io), 37 SGCK2-I/O (io), 38 M1 (out), 39 GND (power), 40 M0 (in), 41 VCC (power), 42 M2 (in), 43 PGCK2-I/O (io), 44 HDC-I/O (io), 45 I/O (io), 46 I/O (io), 47 I/O (io), 48 LDC-I/O (io), 49 I/O (io), 50 I/O (io), 51 GND (power), 52 I/O (io), 53 I/O (io), 54 I/O (io), 55 I/O (io), 56 I/O (io), 57 I/O (io), 58 I/O (io), 59 ~{ERR} -~{INIT}-I/O (io), 60 VCC (power), 61 GND (power), 62 I/O (io), 63 I/O (io), 64 I/O (io), 65 I/O (io), 66 I/O (io), 67 I/O (io), 68 I/O (io), 69 I/O (io), 70 GND (power), 71 I/O (io), 72 I/O (io), 73 I/O (io), 74 I/O (io), 75 I/O (io), 76 I/O (io), 77 I/O (io), 78 SGCK3-I/O (io), 79 GND (power), 80 DONE (io), 81 VCC (power), 82 ~{PROG} (in), 83 D7-I/O (io), 84 PGCK3-I/O (io), 85 I/O (io), 86 I/O (io), 87 D6-I/O (io), 88 I/O (io), 89 I/O (io), 90 I/O (io), 91 GND (power), 92 I/O (io), 93 I/O (io), 94 D5-I/O (io), 95 CS0-I/O (io), 96 I/O (io), 97 I/O (io), 98 D4-I/O (io), 99 I/O (io), 100 VCC (power), 101 GND (power), 102 D3-I/O (io), 103 ~{RS}-I/O (io), 104 I/O (io), 105 I/O (io), 106 D2-I/O (io), 107 I/O (io), 108 I/O (io), 109 I/O (io), 110 GND (power), 111 I/O (io), 112 I/O (io), 113 D1-I/O (io), 114 ~{RCLK}-~{BUSY}/RDY-I/O (io), 115 I/O (io), 116 I/O (io), 117 D0-DIN-I/O (io), 118 SGCK4-DOUT-I/O (io), 119 CCLK (io), 120 VCC (power), 121 TDO (out), 122 GND (power), 123 A0-~{WS}-I/O (io), 124 A1-PGCK4-I/O (io), 125 I/O (io), 126 I/O (io), 127 A2-CS1-I/O (io), 128 A3-I/O (io), 129 I/O (io), 130 I/O (io), 131 GND (power), 132 I/O (io), 133 I/O (io), 134 A4-I/O (io), 135 A5-I/O (io), 136 I/O (io), 137 I/O (io), 138 I/O (io), 139 A6-I/O (io), 140 A7-I/O (io), 141 GND (power), 142 VCC (power), 143 A8-I/O (io), 144 A9-I/O (io), 145 I/O (io), 146 I/O (io), 147 A10-I/O (io), 148 A11-I/O (io), 149 I/O (io), 150 I/O (io), 151 GND (power), 152 I/O (io), 153 I/O (io), 154 A12-I/O (io), 155 A13-I/O (io), 156 I/O (io), 157 I/O (io), 158 A14-I/O (io), 159 A15-SGCK1-I/O (io), 160 VCC (power)

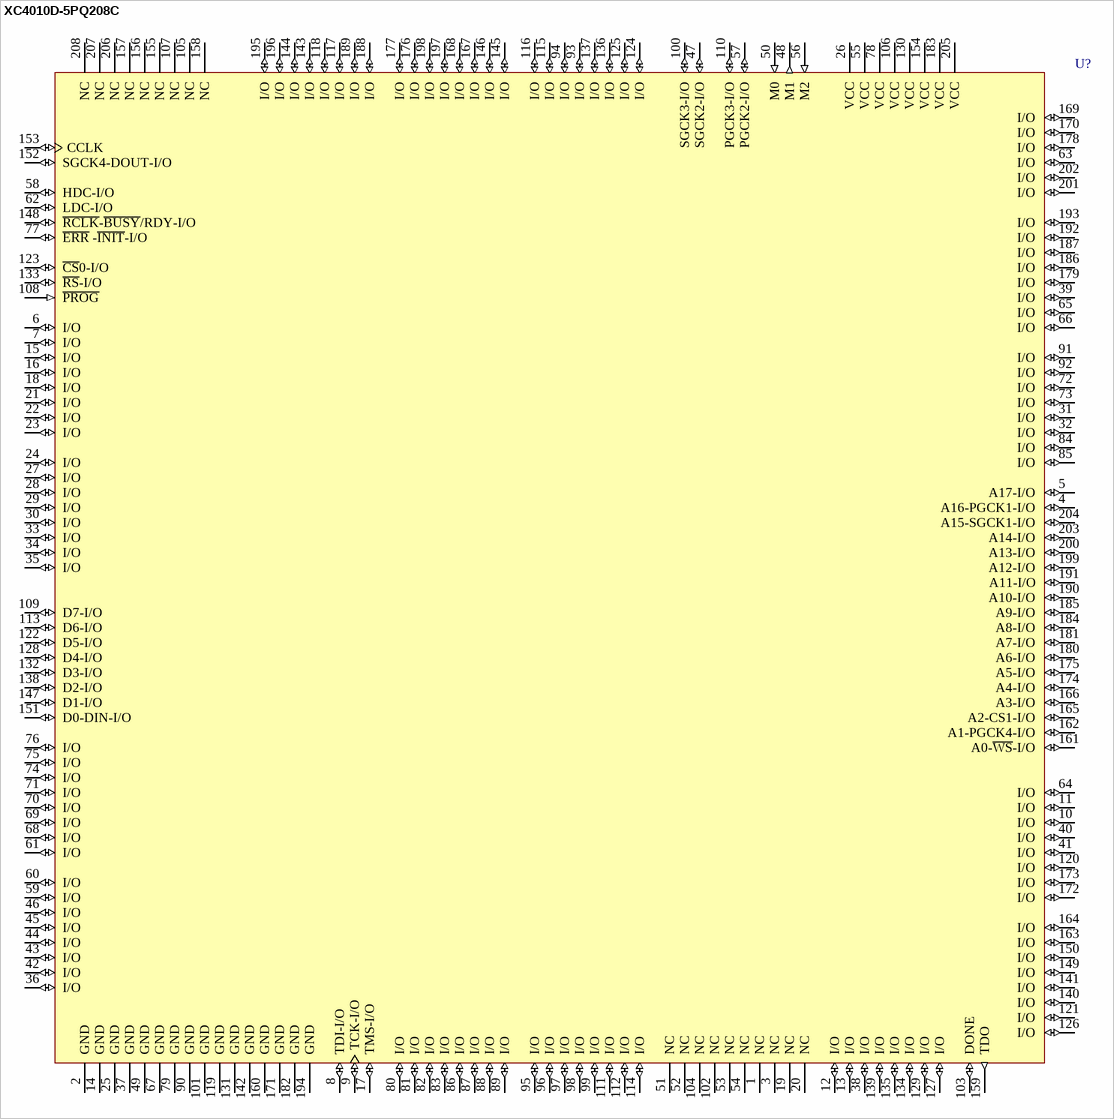
[diagram p137: symbol XC4010D-5PQ208C]

## XC4010D-5PQ208C
designator U?
Logic Cell Array, with 158 I/O Pins, 208-Pin PQFP, Commercial Grade; PackageDocument: ver1.1, Oct-2002; Published: 8-Jun-2000; LatestRevisionDate: 17-Sep-2003; LatestRevisionNote: PCB Footprint dimensions updated; DatasheetDocument: 1994; PackageReference: PQ208; Publisher: Altium Limited; Code_JEDEC: MS-029-FA-1
footprint PQ208 (208-Pin Plastic Quad Flat Pack (PQ208))
pins: 1 NC, 2 GND (power), 3 NC, 4 A16-PGCK1-I/O (io), 5 A17-I/O (io), 6 I/O (io), 7 I/O (io), 8 TDI-I/O (io), 9 TCK-I/O (io), 10 I/O (io), 11 I/O (io), 12 I/O (io), 13 I/O (io), 14 GND (power), 15 I/O (io), 16 I/O (io), 17 TMS-I/O (io), 18 I/O (io), 19 NC, 20 NC, 21 I/O (io), 22 I/O (io), 23 I/O (io), 24 I/O (io), 25 GND (power), 26 VCC (power), 27 I/O (io), 28 I/O (io), 29 I/O (io), 30 I/O (io), 31 I/O (io), 32 I/O (io), 33 I/O (io), 34 I/O (io), 35 I/O (io), 36 I/O (io), 37 GND (power), 38 I/O (io), 39 I/O (io), 40 I/O (io), 41 I/O (io), 42 I/O (io), 43 I/O (io), 44 I/O (io), 45 I/O (io), 46 I/O (io), 47 SGCK2-I/O (io), 48 M1 (out), 49 GND (power), 50 M0 (in), 51 NC, 52 NC, 53 NC, 54 NC, 55 VCC (power), 56 M2 (in), 57 PGCK2-I/O (io), 58 HDC-I/O (io), 59 I/O (io), 60 I/O (io), 61 I/O (io), 62 LDC-I/O (io), 63 I/O (io), 64 I/O (io), 65 I/O (io), 66 I/O (io), 67 GND (power), 68 I/O (io), 69 I/O (io), 70 I/O (io), 71 I/O (io), 72 I/O (io), 73 I/O (io), 74 I/O (io), 75 I/O (io), 76 I/O (io), 77 ~{ERR} -~{INIT}-I/O (io), 78 VCC (power), 79 GND (power), 80 I/O (io), 81 I/O (io), 82 I/O (io), 83 I/O (io), 84 I/O (io), 85 I/O (io), 86 I/O (io), 87 I/O (io), 88 I/O (io), 89 I/O (io), 90 GND (power), 91 I/O (io), 92 I/O (io), 93 I/O (io), 94 I/O (io), 95 I/O (io), 96 I/O (io), 97 I/O (io), 98 I/O (io), 99 I/O (io), 100 SGCK3-I/O (io), 101 GND (power), 102 NC, 103 DONE (io), 104 NC, 105 NC, 106 VCC (power), 107 NC, 108 ~{PROG} (in), 109 D7-I/O (io), 110 PGCK3-I/O (io), 111 I/O (io), 112 I/O (io), 113 D6-I/O (io), 114 I/O (io), 115 I/O (io), 116 I/O (io), 117 I/O (io), 118 I/O (io), 119 GND (power), 120 I/O (io), 121 I/O (io), 122 D5-I/O (io), 123 ~{CS}0-I/O (io), 124 I/O (io), 125 I/O (io), 126 I/O (io), 127 I/O (io), 128 D4-I/O (io), 129 I/O (io), 130 VCC (power), 131 GND (power), 132 D3-I/O (io), 133 ~{RS}-I/O (io), 134 I/O (io), 135 I/O (io), 136 I/O (io), 137 I/O (io), 138 D2-I/O (io), 139 I/O (io), 140 I/O (io), 141 I/O (io), 142 GND (power), 143 I/O (io), 144 I/O (io), 145 I/O (io), 146 I/O (io), 147 D1-I/O (io), 148 ~{RCLK}-~{BUSY}/RDY-I/O (io), 149 I/O (io), 150 I/O (io), 151 D0-DIN-I/O (io), 152 SGCK4-DOUT-I/O (io), 153 CCLK (io), 154 VCC (power), 155 NC, 156 NC, 157 NC, 158 NC, 159 TDO (out), 160 GND (power), 161 A0-~{WS}-I/O (io), 162 A1-PGCK4-I/O (io), 163 I/O (io), 164 I/O (io), 165 A2-CS1-I/O (io), 166 A3-I/O (io), 167 I/O (io), 168 I/O (io), 169 I/O (io), 170 I/O (io), 171 GND (power), 172 I/O (io), 173 I/O (io), 174 A4-I/O (io), 175 A5-I/O (io), 176 I/O (io), 177 I/O (io), 178 I/O (io), 179 I/O (io), 180 A6-I/O (io), 181 A7-I/O (io), 182 GND (power), 183 VCC (power), 184 A8-I/O (io), 185 A9-I/O (io), 186 I/O (io), 187 I/O (io), 188 I/O (io), 189 I/O (io), 190 A10-I/O (io), 191 A11-I/O (io), 192 I/O (io), 193 I/O (io), 194 GND (power), 195 I/O (io), 196 I/O (io), 197 I/O (io), 198 I/O (io), 199 A12-I/O (io), 200 A13-I/O (io), 201 I/O (io), 202 I/O (io), 203 A14-I/O (io), 204 A15-SGCK1-I/O (io), 205 VCC (power), 206 NC, 207 NC, 208 NC

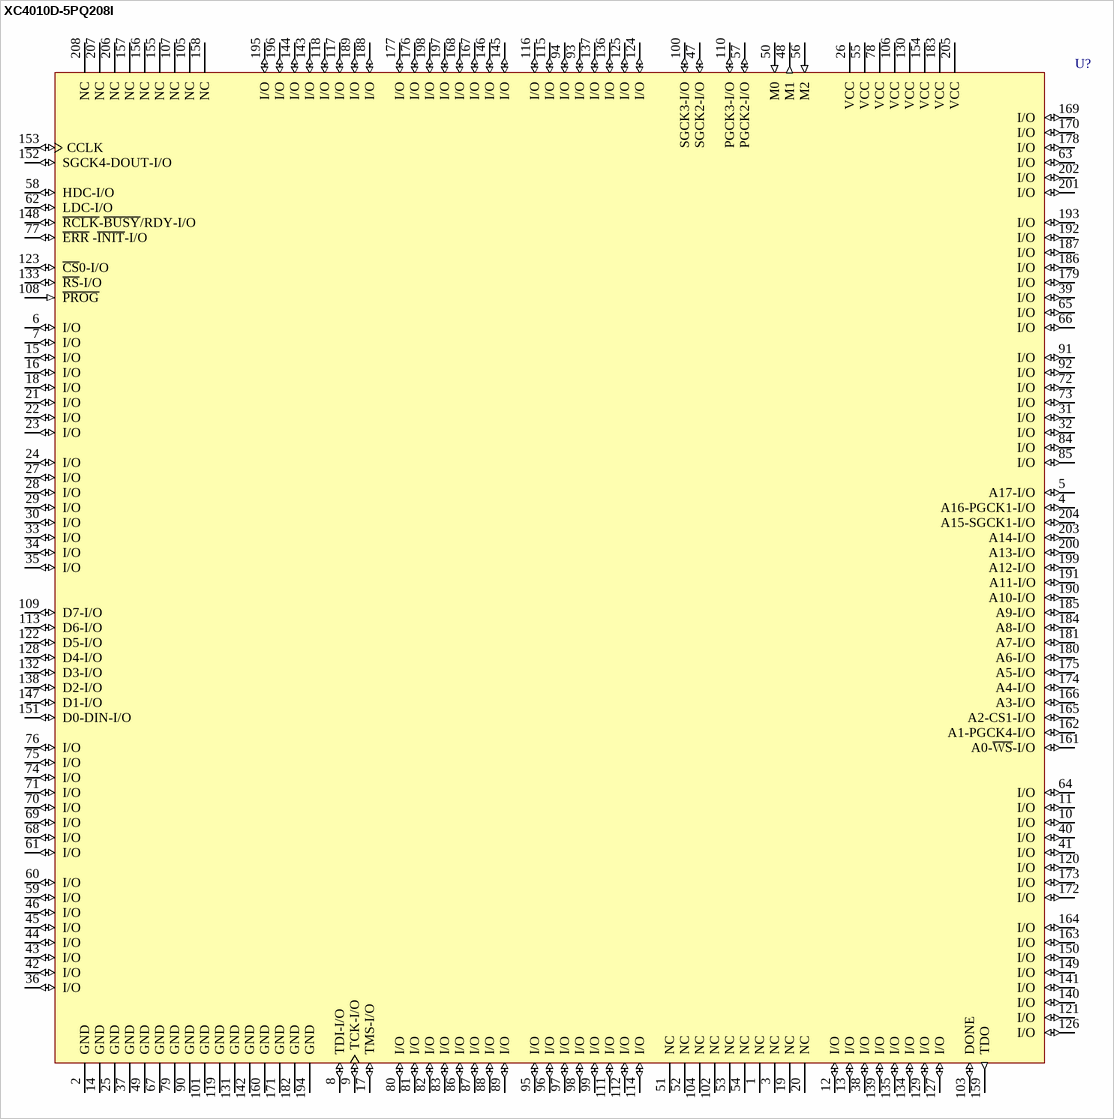
[diagram p138: symbol XC4010D-5PQ208I]

## XC4010D-5PQ208I
designator U?
Logic Cell Array, with 158 I/O Pins, 208-Pin PQFP, Industrial Grade; PackageDocument: ver1.1, Oct-2002; Published: 8-Jun-2000; LatestRevisionDate: 17-Sep-2003; LatestRevisionNote: PCB Footprint dimensions updated; DatasheetDocument: 1994; PackageReference: PQ208; Publisher: Altium Limited; Code_JEDEC: MS-029-FA-1
footprint PQ208 (208-Pin Plastic Quad Flat Pack (PQ208))
pins: 1 NC, 2 GND (power), 3 NC, 4 A16-PGCK1-I/O (io), 5 A17-I/O (io), 6 I/O (io), 7 I/O (io), 8 TDI-I/O (io), 9 TCK-I/O (io), 10 I/O (io), 11 I/O (io), 12 I/O (io), 13 I/O (io), 14 GND (power), 15 I/O (io), 16 I/O (io), 17 TMS-I/O (io), 18 I/O (io), 19 NC, 20 NC, 21 I/O (io), 22 I/O (io), 23 I/O (io), 24 I/O (io), 25 GND (power), 26 VCC (power), 27 I/O (io), 28 I/O (io), 29 I/O (io), 30 I/O (io), 31 I/O (io), 32 I/O (io), 33 I/O (io), 34 I/O (io), 35 I/O (io), 36 I/O (io), 37 GND (power), 38 I/O (io), 39 I/O (io), 40 I/O (io), 41 I/O (io), 42 I/O (io), 43 I/O (io), 44 I/O (io), 45 I/O (io), 46 I/O (io), 47 SGCK2-I/O (io), 48 M1 (out), 49 GND (power), 50 M0 (in), 51 NC, 52 NC, 53 NC, 54 NC, 55 VCC (power), 56 M2 (in), 57 PGCK2-I/O (io), 58 HDC-I/O (io), 59 I/O (io), 60 I/O (io), 61 I/O (io), 62 LDC-I/O (io), 63 I/O (io), 64 I/O (io), 65 I/O (io), 66 I/O (io), 67 GND (power), 68 I/O (io), 69 I/O (io), 70 I/O (io), 71 I/O (io), 72 I/O (io), 73 I/O (io), 74 I/O (io), 75 I/O (io), 76 I/O (io), 77 ~{ERR} -~{INIT}-I/O (io), 78 VCC (power), 79 GND (power), 80 I/O (io), 81 I/O (io), 82 I/O (io), 83 I/O (io), 84 I/O (io), 85 I/O (io), 86 I/O (io), 87 I/O (io), 88 I/O (io), 89 I/O (io), 90 GND (power), 91 I/O (io), 92 I/O (io), 93 I/O (io), 94 I/O (io), 95 I/O (io), 96 I/O (io), 97 I/O (io), 98 I/O (io), 99 I/O (io), 100 SGCK3-I/O (io), 101 GND (power), 102 NC, 103 DONE (io), 104 NC, 105 NC, 106 VCC (power), 107 NC, 108 ~{PROG} (in), 109 D7-I/O (io), 110 PGCK3-I/O (io), 111 I/O (io), 112 I/O (io), 113 D6-I/O (io), 114 I/O (io), 115 I/O (io), 116 I/O (io), 117 I/O (io), 118 I/O (io), 119 GND (power), 120 I/O (io), 121 I/O (io), 122 D5-I/O (io), 123 ~{CS}0-I/O (io), 124 I/O (io), 125 I/O (io), 126 I/O (io), 127 I/O (io), 128 D4-I/O (io), 129 I/O (io), 130 VCC (power), 131 GND (power), 132 D3-I/O (io), 133 ~{RS}-I/O (io), 134 I/O (io), 135 I/O (io), 136 I/O (io), 137 I/O (io), 138 D2-I/O (io), 139 I/O (io), 140 I/O (io), 141 I/O (io), 142 GND (power), 143 I/O (io), 144 I/O (io), 145 I/O (io), 146 I/O (io), 147 D1-I/O (io), 148 ~{RCLK}-~{BUSY}/RDY-I/O (io), 149 I/O (io), 150 I/O (io), 151 D0-DIN-I/O (io), 152 SGCK4-DOUT-I/O (io), 153 CCLK (io), 154 VCC (power), 155 NC, 156 NC, 157 NC, 158 NC, 159 TDO (out), 160 GND (power), 161 A0-~{WS}-I/O (io), 162 A1-PGCK4-I/O (io), 163 I/O (io), 164 I/O (io), 165 A2-CS1-I/O (io), 166 A3-I/O (io), 167 I/O (io), 168 I/O (io), 169 I/O (io), 170 I/O (io), 171 GND (power), 172 I/O (io), 173 I/O (io), 174 A4-I/O (io), 175 A5-I/O (io), 176 I/O (io), 177 I/O (io), 178 I/O (io), 179 I/O (io), 180 A6-I/O (io), 181 A7-I/O (io), 182 GND (power), 183 VCC (power), 184 A8-I/O (io), 185 A9-I/O (io), 186 I/O (io), 187 I/O (io), 188 I/O (io), 189 I/O (io), 190 A10-I/O (io), 191 A11-I/O (io), 192 I/O (io), 193 I/O (io), 194 GND (power), 195 I/O (io), 196 I/O (io), 197 I/O (io), 198 I/O (io), 199 A12-I/O (io), 200 A13-I/O (io), 201 I/O (io), 202 I/O (io), 203 A14-I/O (io), 204 A15-SGCK1-I/O (io), 205 VCC (power), 206 NC, 207 NC, 208 NC

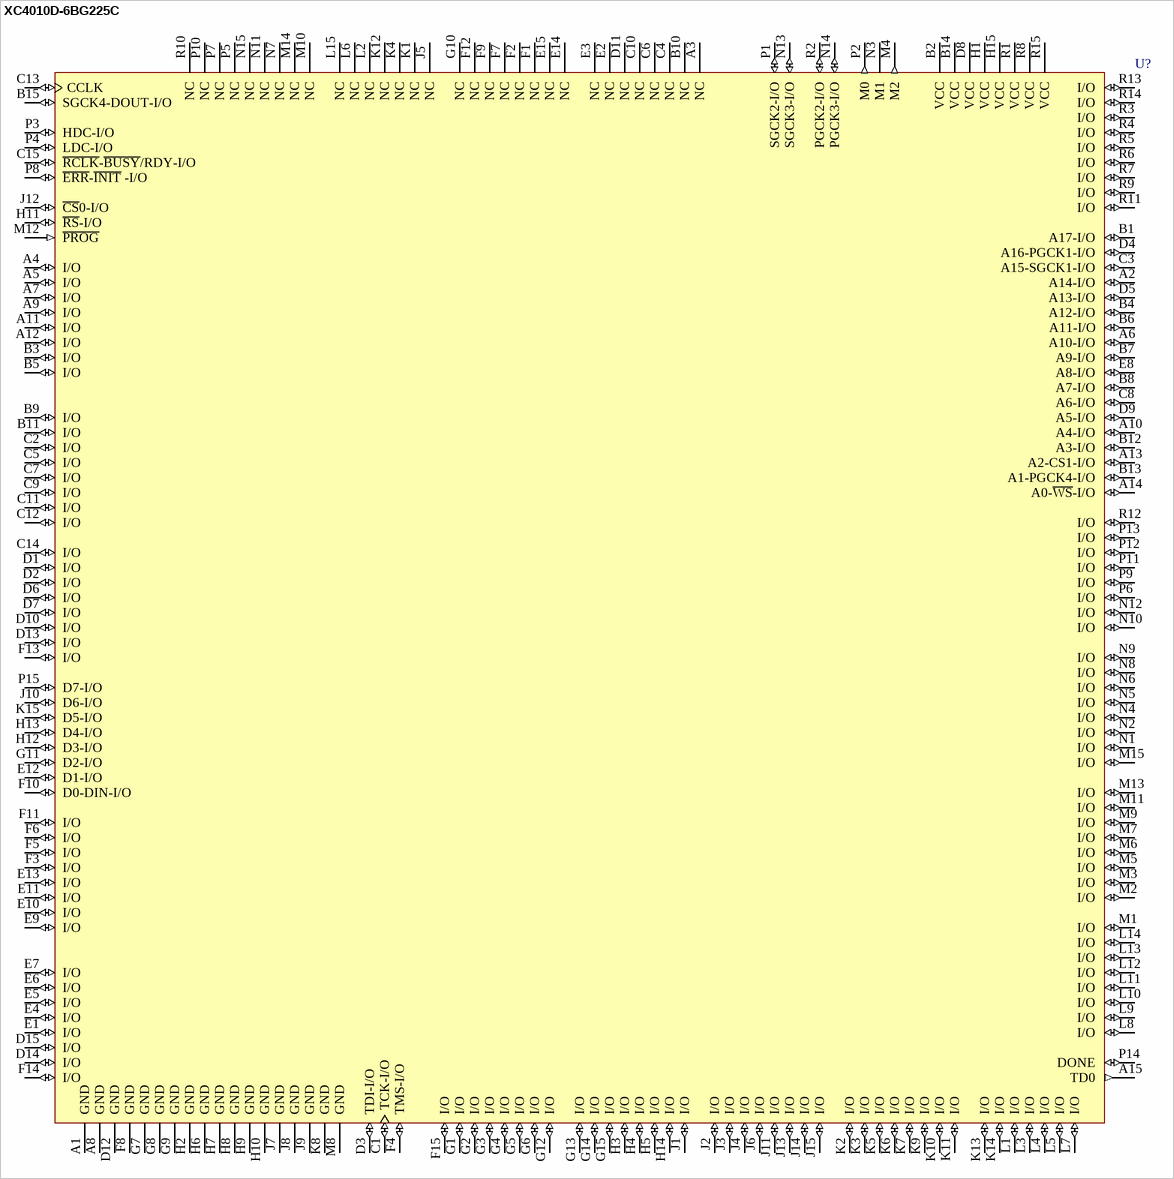
[diagram p139: symbol XC4010D-6BG225C]

## XC4010D-6BG225C
designator U?
Logic Cell Array, with 160 I/O Pins, 225-Pin BGA, Commercial Grade; PackageDocument: ver1.1, Apr-2001; Published: 8-Jun-2000; LatestRevisionDate: 17-Jul-2002; LatestRevisionNote: Re-released for DXP Platform.; DatasheetDocument: 1994; PackageReference: BG225; Publisher: Altium Limited
footprint BG225 (225-Ball Plastic Ball Grid Array (BG225))
pins: A1 GND (power), A2 A14-I/O (io), A3 NC, A4 I/O (io), A5 I/O (io), A6 A10-I/O (io), A7 I/O (io), A8 GND (power), A9 I/O (io), A10 A4-I/O (io), A11 I/O (io), A12 I/O (io), A13 A2-CS1-I/O (io), A14 A0-~{WS}-I/O (io), A15 TD0 (out), B1 A17-I/O (io), B2 VCC (power), B3 I/O (io), B4 A12-I/O (io), B5 I/O (io), B6 A11-I/O (io), B7 A9-I/O (io), B8 A7-I/O (io), B9 I/O (io), B10 NC, B11 I/O (io), B12 A3-I/O (io), B13 A1-PGCK4-I/O (io), B14 VCC (power), B15 SGCK4-DOUT-I/O (io), C1 TCK-I/O (io), C2 I/O (io), C3 A15-SGCK1-I/O (io), C4 NC, C5 I/O (io), C6 NC, C7 I/O (io), C8 A6-I/O (io), C9 I/O (io), C10 NC, C11 I/O (io), C12 I/O (io), C13 CCLK (io), C14 I/O (io), C15 ~{RCLK}-~{BUSY}/RDY-I/O (io), D1 I/O (io), D2 I/O (io), D3 TDI-I/O (io), D4 A16-PGCK1-I/O (io), D5 A13-I/O (io), D6 I/O (io), D7 I/O (io), D8 VCC (power), D9 A5-I/O (io), D10 I/O (io), D11 NC, D12 GND (power), D13 I/O (io), D14 I/O (io), D15 I/O (io), E1 I/O (io), E2 NC, E3 NC, E4 I/O (io), E5 I/O (io), E6 I/O (io), E7 I/O (io), E8 A8-I/O (io), E9 I/O (io), E10 I/O (io), E11 I/O (io), E12 D1-I/O (io), E13 I/O (io), E14 NC, E15 NC, F1 NC, F2 NC, F3 I/O (io), F4 TMS-I/O (io), F5 I/O (io), F6 I/O (io), F7 NC, F8 GND (power), F9 NC, F10 D0-DIN-I/O (io), F11 I/O (io), F12 NC, F13 I/O (io), F14 I/O (io), F15 I/O (io), G1 I/O (io), G2 I/O (io), G3 I/O (io), G4 I/O (io), G5 I/O (io), G6 I/O (io), G7 GND (power), G8 GND (power), G9 GND (power), G10 NC, G11 D2-I/O (io), G12 I/O (io), G13 I/O (io), G14 I/O (io), G15 I/O (io), H1 VCC (power), H2 GND (power), H3 I/O (io), H4 I/O (io), H5 I/O (io), H6 GND (power), H7 GND (power), H8 GND (power), H9 GND (power), H10 GND (power), H11 ~{RS}-I/O (io), H12 D3-I/O (io), H13 D4-I/O (io), H14 I/O (io), H15 VCC (power), J1 I/O (io), J2 I/O (io), J3 I/O (io), J4 I/O (io), J5 NC, J6 I/O (io), J7 GND (power), J8 GND (power), J9 GND (power), J10 D6-I/O (io), J11 I/O (io), J12 ~{CS}0-I/O (io), J13 I/O (io), J14 I/O (io), J15 I/O (io), K1 NC, K2 I/O (io), K3 I/O (io), K4 NC, K5 I/O (io), K6 I/O (io), K7 I/O (io), K8 GND (power), K9 I/O (io), K10 I/O (io), K11 I/O (io), K12 NC, K13 I/O (io), K14 I/O (io), K15 D5-I/O (io), L1 I/O (io), L2 NC, L3 I/O (io), L4 I/O (io), L5 I/O (io), L6 NC, L7 I/O (io), L8 I/O (io), L9 I/O (io), L10 I/O (io), L11 I/O (io), L12 I/O (io), L13 I/O (io), L14 I/O (io), L15 NC, M1 I/O (io), M2 I/O (io), M3 I/O (io), M4 M2 (out), M5 I/O (io), M6 I/O (io), M7 I/O (io), M8 GND (power), M9 I/O (io), M10 NC, M11 I/O (io), M12 ~{PROG} (in), M13 I/O (io), M14 NC, M15 I/O (io), N1 I/O (io), N2 I/O (io), N3 M1 (hiz), N4 I/O (io), N5 I/O (io), N6 I/O (io), N7 NC, N8 I/O (io), N9 I/O (io), N10 I/O (io), N11 NC, N12 I/O (io), N13 SGCK3-I/O (io), N14 PGCK3-I/O (io), N15 NC, P1 SGCK2-I/O (io), P2 M0 (out), P3 HDC-I/O (io), P4 LDC-I/O (io), P5 NC, P6 I/O (io), P7 NC, P8 ~{ERR}-~{INIT} -I/O (io), P9 I/O (io), P10 NC, P11 I/O (io), P12 I/O (io), P13 I/O (io), P14 DONE (io), P15 D7-I/O (io), R1 VCC (power), R2 PGCK2-I/O (io), R3 I/O (io), R4 I/O (io), R5 I/O (io), R6 I/O (io), R7 I/O (io), R8 VCC (power), R9 I/O (io), R10 NC, R11 I/O (io), R12 I/O (io), R13 I/O (io), R14 I/O (io), R15 VCC (power)

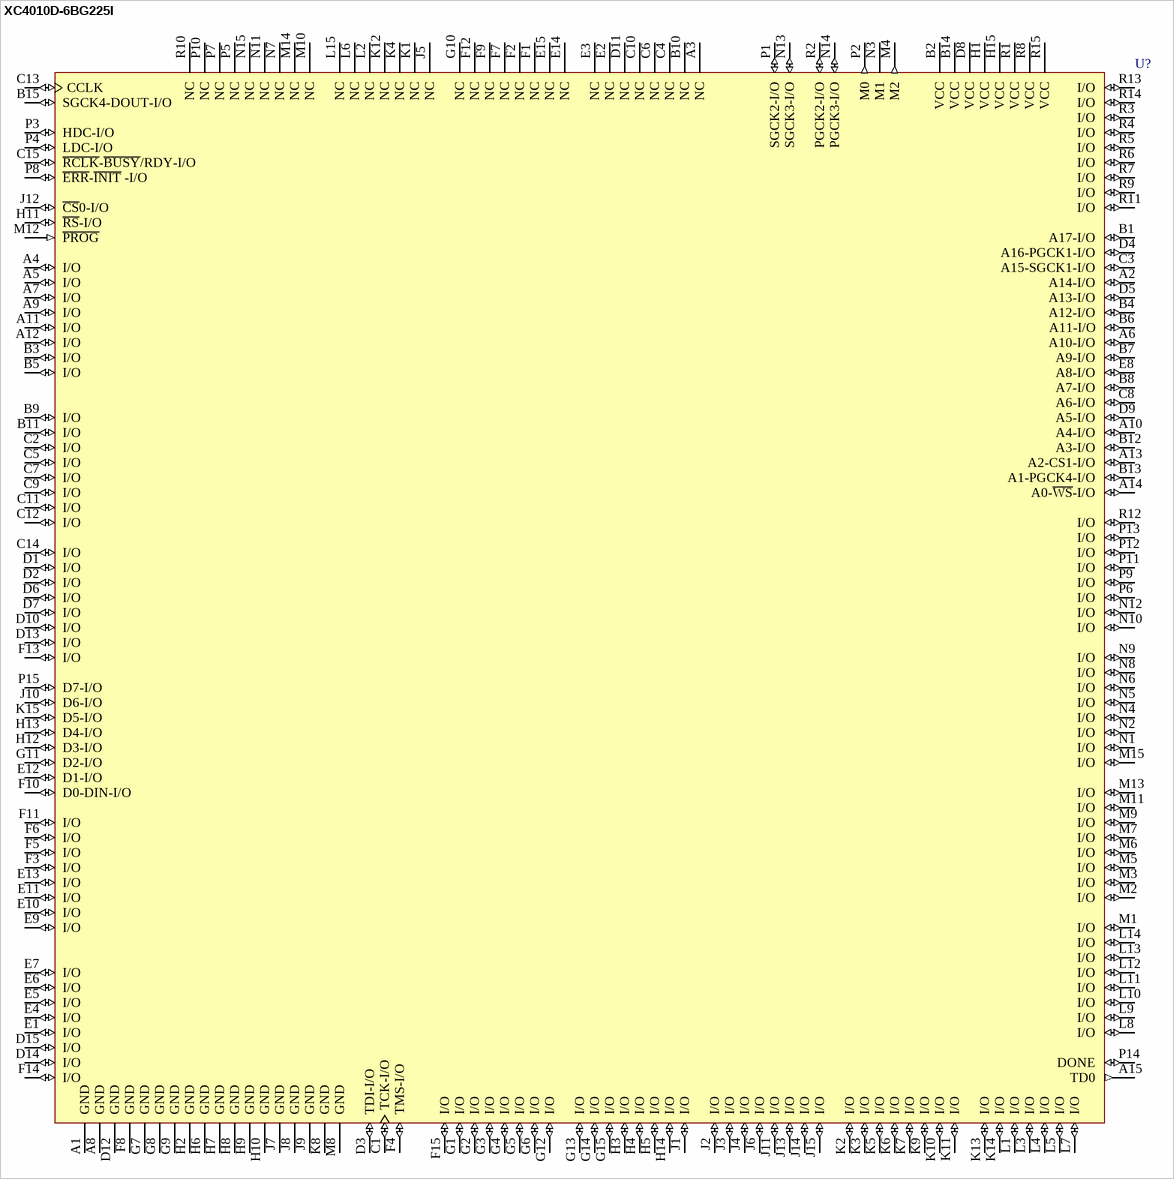
[diagram p140: symbol XC4010D-6BG225I]

## XC4010D-6BG225I
designator U?
Logic Cell Array, with 160 I/O Pins, 225-Pin BGA, Industrial Grade; PackageDocument: ver1.1, Apr-2001; Published: 8-Jun-2000; LatestRevisionDate: 17-Jul-2002; LatestRevisionNote: Re-released for DXP Platform.; DatasheetDocument: 1994; PackageReference: BG225; Publisher: Altium Limited
footprint BG225 (225-Ball Plastic Ball Grid Array (BG225))
pins: A1 GND (power), A2 A14-I/O (io), A3 NC, A4 I/O (io), A5 I/O (io), A6 A10-I/O (io), A7 I/O (io), A8 GND (power), A9 I/O (io), A10 A4-I/O (io), A11 I/O (io), A12 I/O (io), A13 A2-CS1-I/O (io), A14 A0-~{WS}-I/O (io), A15 TD0 (out), B1 A17-I/O (io), B2 VCC (power), B3 I/O (io), B4 A12-I/O (io), B5 I/O (io), B6 A11-I/O (io), B7 A9-I/O (io), B8 A7-I/O (io), B9 I/O (io), B10 NC, B11 I/O (io), B12 A3-I/O (io), B13 A1-PGCK4-I/O (io), B14 VCC (power), B15 SGCK4-DOUT-I/O (io), C1 TCK-I/O (io), C2 I/O (io), C3 A15-SGCK1-I/O (io), C4 NC, C5 I/O (io), C6 NC, C7 I/O (io), C8 A6-I/O (io), C9 I/O (io), C10 NC, C11 I/O (io), C12 I/O (io), C13 CCLK (io), C14 I/O (io), C15 ~{RCLK}-~{BUSY}/RDY-I/O (io), D1 I/O (io), D2 I/O (io), D3 TDI-I/O (io), D4 A16-PGCK1-I/O (io), D5 A13-I/O (io), D6 I/O (io), D7 I/O (io), D8 VCC (power), D9 A5-I/O (io), D10 I/O (io), D11 NC, D12 GND (power), D13 I/O (io), D14 I/O (io), D15 I/O (io), E1 I/O (io), E2 NC, E3 NC, E4 I/O (io), E5 I/O (io), E6 I/O (io), E7 I/O (io), E8 A8-I/O (io), E9 I/O (io), E10 I/O (io), E11 I/O (io), E12 D1-I/O (io), E13 I/O (io), E14 NC, E15 NC, F1 NC, F2 NC, F3 I/O (io), F4 TMS-I/O (io), F5 I/O (io), F6 I/O (io), F7 NC, F8 GND (power), F9 NC, F10 D0-DIN-I/O (io), F11 I/O (io), F12 NC, F13 I/O (io), F14 I/O (io), F15 I/O (io), G1 I/O (io), G2 I/O (io), G3 I/O (io), G4 I/O (io), G5 I/O (io), G6 I/O (io), G7 GND (power), G8 GND (power), G9 GND (power), G10 NC, G11 D2-I/O (io), G12 I/O (io), G13 I/O (io), G14 I/O (io), G15 I/O (io), H1 VCC (power), H2 GND (power), H3 I/O (io), H4 I/O (io), H5 I/O (io), H6 GND (power), H7 GND (power), H8 GND (power), H9 GND (power), H10 GND (power), H11 ~{RS}-I/O (io), H12 D3-I/O (io), H13 D4-I/O (io), H14 I/O (io), H15 VCC (power), J1 I/O (io), J2 I/O (io), J3 I/O (io), J4 I/O (io), J5 NC, J6 I/O (io), J7 GND (power), J8 GND (power), J9 GND (power), J10 D6-I/O (io), J11 I/O (io), J12 ~{CS}0-I/O (io), J13 I/O (io), J14 I/O (io), J15 I/O (io), K1 NC, K2 I/O (io), K3 I/O (io), K4 NC, K5 I/O (io), K6 I/O (io), K7 I/O (io), K8 GND (power), K9 I/O (io), K10 I/O (io), K11 I/O (io), K12 NC, K13 I/O (io), K14 I/O (io), K15 D5-I/O (io), L1 I/O (io), L2 NC, L3 I/O (io), L4 I/O (io), L5 I/O (io), L6 NC, L7 I/O (io), L8 I/O (io), L9 I/O (io), L10 I/O (io), L11 I/O (io), L12 I/O (io), L13 I/O (io), L14 I/O (io), L15 NC, M1 I/O (io), M2 I/O (io), M3 I/O (io), M4 M2 (out), M5 I/O (io), M6 I/O (io), M7 I/O (io), M8 GND (power), M9 I/O (io), M10 NC, M11 I/O (io), M12 ~{PROG} (in), M13 I/O (io), M14 NC, M15 I/O (io), N1 I/O (io), N2 I/O (io), N3 M1 (hiz), N4 I/O (io), N5 I/O (io), N6 I/O (io), N7 NC, N8 I/O (io), N9 I/O (io), N10 I/O (io), N11 NC, N12 I/O (io), N13 SGCK3-I/O (io), N14 PGCK3-I/O (io), N15 NC, P1 SGCK2-I/O (io), P2 M0 (out), P3 HDC-I/O (io), P4 LDC-I/O (io), P5 NC, P6 I/O (io), P7 NC, P8 ~{ERR}-~{INIT} -I/O (io), P9 I/O (io), P10 NC, P11 I/O (io), P12 I/O (io), P13 I/O (io), P14 DONE (io), P15 D7-I/O (io), R1 VCC (power), R2 PGCK2-I/O (io), R3 I/O (io), R4 I/O (io), R5 I/O (io), R6 I/O (io), R7 I/O (io), R8 VCC (power), R9 I/O (io), R10 NC, R11 I/O (io), R12 I/O (io), R13 I/O (io), R14 I/O (io), R15 VCC (power)

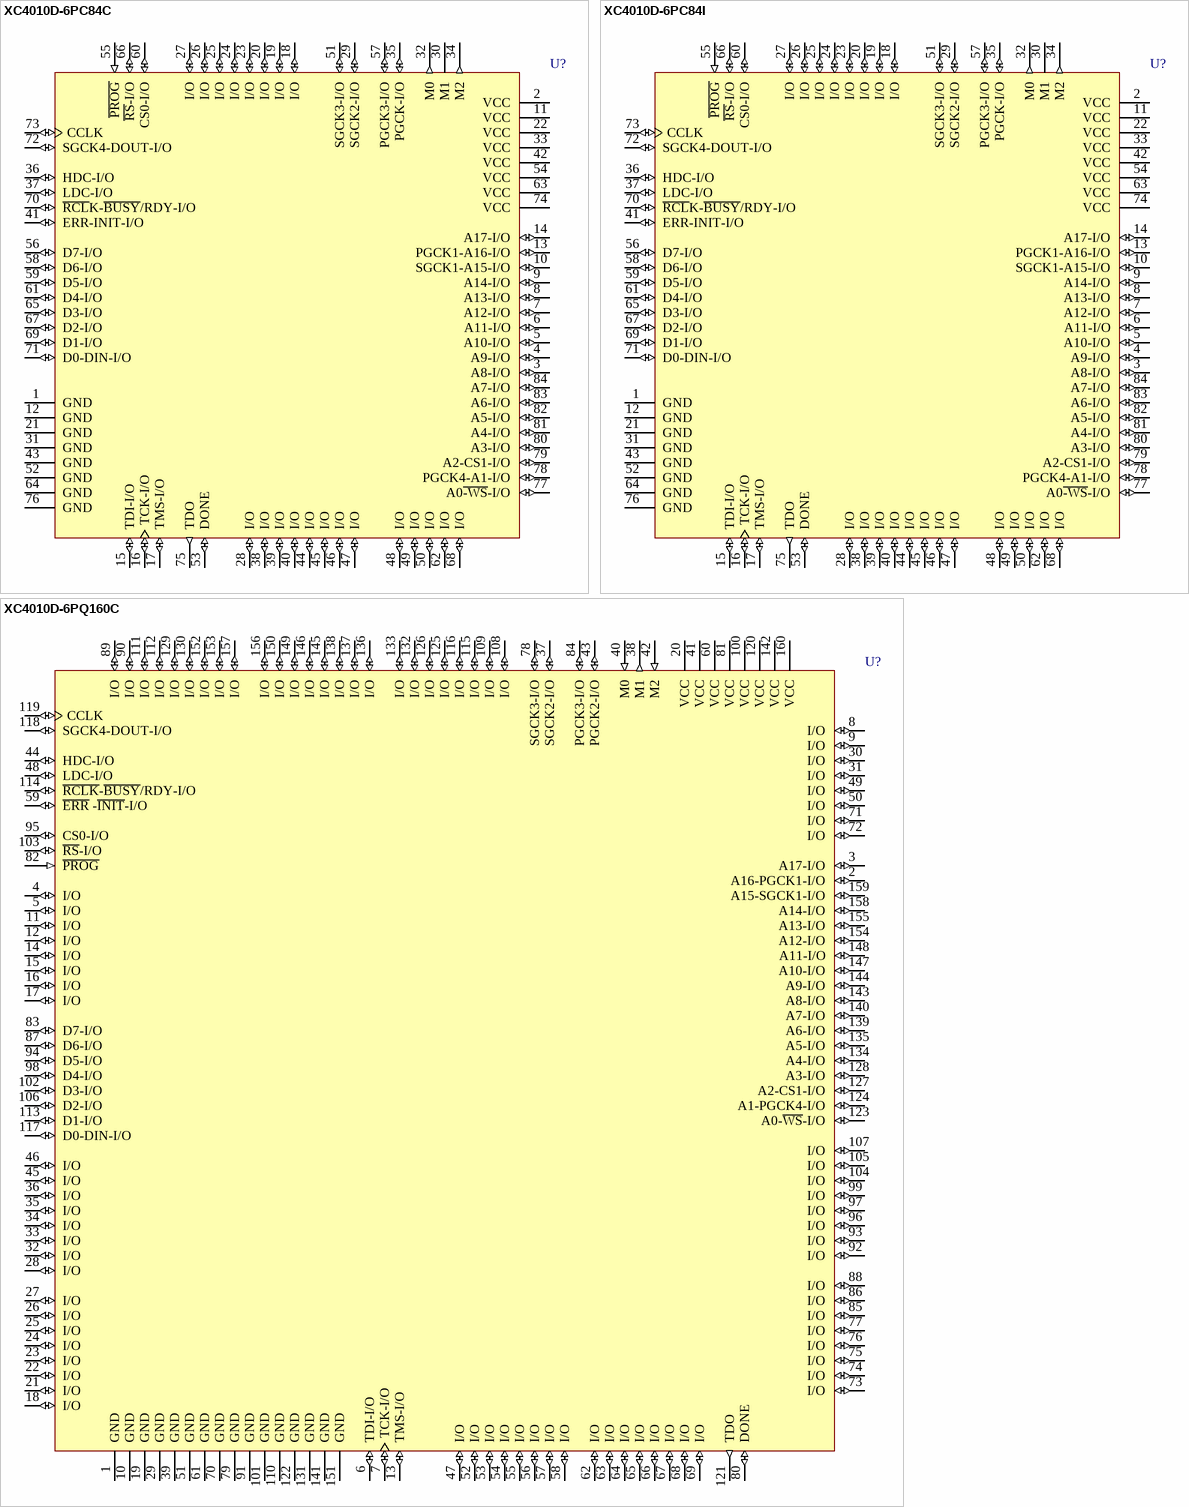
[diagram p141: symbols XC4010D-6PC84C to XC4010D-6PQ160C]

## XC4010D-6PC84C
designator U?
Logic Cell Array, with 61 I/O Pins, 84-Pin PLCC, Commercial Grade; PackageDocument: ver1.0, Jun-2000; Published: 8-Jun-2000; LatestRevisionDate: 17-Sep-2003; LatestRevisionNote: PCB Footprint dimensions updated; DatasheetDocument: 1994; PackageReference: PC84; Publisher: Altium Limited; Code_JEDEC: MS-047; Code_IPC: PLCC-84
footprint PC84 (84-Pin Plastic Leaded Chip Carrier (PC84))
pins: 1 GND (power), 2 VCC (power), 3 A8-I/O (io), 4 A9-I/O (io), 5 A10-I/O (io), 6 A11-I/O (io), 7 A12-I/O (io), 8 A13-I/O (io), 9 A14-I/O (io), 10 SGCK1-A15-I/O (io), 11 VCC (power), 12 GND (power), 13 PGCK1-A16-I/O (io), 14 A17-I/O (io), 15 TDI-I/O (io), 16 TCK-I/O (io), 17 TMS-I/O (io), 18 I/O (io), 19 I/O (io), 20 I/O (io), 21 GND (power), 22 VCC (power), 23 I/O (io), 24 I/O (io), 25 I/O (io), 26 I/O (io), 27 I/O (io), 28 I/O (io), 29 SGCK2-I/O (io), 30 M1 (hiz), 31 GND (power), 32 M0 (out), 33 VCC (power), 34 M2 (out), 35 PGCK-I/O (io), 36 HDC-I/O (io), 37 LDC-I/O (io), 38 I/O (io), 39 I/O (io), 40 I/O (io), 41 ERR-INIT-I/O (io), 42 VCC (power), 43 GND (power), 44 I/O (io), 45 I/O (io), 46 I/O (io), 47 I/O (io), 48 I/O (io), 49 I/O (io), 50 I/O (io), 51 SGCK3-I/O (io), 52 GND (power), 53 DONE (io), 54 VCC (power), 55 ~{PROG} (in), 56 D7-I/O (io), 57 PGCK3-I/O (io), 58 D6-I/O (io), 59 D5-I/O (io), 60 CS0-I/O (io), 61 D4-I/O (io), 62 I/O (io), 63 VCC (power), 64 GND (power), 65 D3-I/O (io), 66 ~{RS}-I/O (io), 67 D2-I/O (io), 68 I/O (io), 69 D1-I/O (io), 70 ~{RCL}K-~{BUSY}/RDY-I/O (io), 71 D0-DIN-I/O (io), 72 SGCK4-DOUT-I/O (io), 73 CCLK (io), 74 VCC (power), 75 TDO (out), 76 GND (power), 77 A0~{-WS}-I/O (io), 78 PGCK4-A1-I/O (io), 79 A2-CS1-I/O (io), 80 A3-I/O (io), 81 A4-I/O (io), 82 A5-I/O (io), 83 A6-I/O (io), 84 A7-I/O (io)

## XC4010D-6PC84I
designator U?
Logic Cell Array, with 61 I/O Pins, 84-Pin PLCC, Industrial Grade; PackageDocument: ver1.0, Jun-2000; Published: 8-Jun-2000; LatestRevisionDate: 17-Sep-2003; LatestRevisionNote: PCB Footprint dimensions updated; DatasheetDocument: 1994; PackageReference: PC84; Publisher: Altium Limited; Code_JEDEC: MS-047; Code_IPC: PLCC-84
footprint PC84 (84-Pin Plastic Leaded Chip Carrier (PC84))
pins: 1 GND (power), 2 VCC (power), 3 A8-I/O (io), 4 A9-I/O (io), 5 A10-I/O (io), 6 A11-I/O (io), 7 A12-I/O (io), 8 A13-I/O (io), 9 A14-I/O (io), 10 SGCK1-A15-I/O (io), 11 VCC (power), 12 GND (power), 13 PGCK1-A16-I/O (io), 14 A17-I/O (io), 15 TDI-I/O (io), 16 TCK-I/O (io), 17 TMS-I/O (io), 18 I/O (io), 19 I/O (io), 20 I/O (io), 21 GND (power), 22 VCC (power), 23 I/O (io), 24 I/O (io), 25 I/O (io), 26 I/O (io), 27 I/O (io), 28 I/O (io), 29 SGCK2-I/O (io), 30 M1 (hiz), 31 GND (power), 32 M0 (out), 33 VCC (power), 34 M2 (out), 35 PGCK-I/O (io), 36 HDC-I/O (io), 37 LDC-I/O (io), 38 I/O (io), 39 I/O (io), 40 I/O (io), 41 ERR-INIT-I/O (io), 42 VCC (power), 43 GND (power), 44 I/O (io), 45 I/O (io), 46 I/O (io), 47 I/O (io), 48 I/O (io), 49 I/O (io), 50 I/O (io), 51 SGCK3-I/O (io), 52 GND (power), 53 DONE (io), 54 VCC (power), 55 ~{PROG} (in), 56 D7-I/O (io), 57 PGCK3-I/O (io), 58 D6-I/O (io), 59 D5-I/O (io), 60 CS0-I/O (io), 61 D4-I/O (io), 62 I/O (io), 63 VCC (power), 64 GND (power), 65 D3-I/O (io), 66 ~{RS}-I/O (io), 67 D2-I/O (io), 68 I/O (io), 69 D1-I/O (io), 70 ~{RCL}K-~{BUSY}/RDY-I/O (io), 71 D0-DIN-I/O (io), 72 SGCK4-DOUT-I/O (io), 73 CCLK (io), 74 VCC (power), 75 TDO (out), 76 GND (power), 77 A0~{-WS}-I/O (io), 78 PGCK4-A1-I/O (io), 79 A2-CS1-I/O (io), 80 A3-I/O (io), 81 A4-I/O (io), 82 A5-I/O (io), 83 A6-I/O (io), 84 A7-I/O (io)

## XC4010D-6PQ160C
designator U?
Logic Cell Array, with 129 I/O Pins, 160-Pin PQFP, Commercial Grade; PackageDocument: ver1.1, Oct-2002; Published: 8-Jun-2000; LatestRevisionDate: 17-Jul-2002; LatestRevisionNote: PCB footprint, 'QFP28x28-G160/D28N' replaced; Re-released for DXP Platform.; DatasheetDocument: 1994; PackageReference: PQ160; Publisher: Altium Limited; Code_JEDEC: MS-022-DD1
footprint PQ160 (160-Pin Plastic Quad Flat Pack (PQ160))
pins: 1 GND (power), 2 A16-PGCK1-I/O (io), 3 A17-I/O (io), 4 I/O (io), 5 I/O (io), 6 TDI-I/O (io), 7 TCK-I/O (io), 8 I/O (io), 9 I/O (io), 10 GND (power), 11 I/O (io), 12 I/O (io), 13 TMS-I/O (io), 14 I/O (io), 15 I/O (io), 16 I/O (io), 17 I/O (io), 18 I/O (io), 19 GND (power), 20 VCC (power), 21 I/O (io), 22 I/O (io), 23 I/O (io), 24 I/O (io), 25 I/O (io), 26 I/O (io), 27 I/O (io), 28 I/O (io), 29 GND (power), 30 I/O (io), 31 I/O (io), 32 I/O (io), 33 I/O (io), 34 I/O (io), 35 I/O (io), 36 I/O (io), 37 SGCK2-I/O (io), 38 M1 (out), 39 GND (power), 40 M0 (in), 41 VCC (power), 42 M2 (in), 43 PGCK2-I/O (io), 44 HDC-I/O (io), 45 I/O (io), 46 I/O (io), 47 I/O (io), 48 LDC-I/O (io), 49 I/O (io), 50 I/O (io), 51 GND (power), 52 I/O (io), 53 I/O (io), 54 I/O (io), 55 I/O (io), 56 I/O (io), 57 I/O (io), 58 I/O (io), 59 ~{ERR} -~{INIT}-I/O (io), 60 VCC (power), 61 GND (power), 62 I/O (io), 63 I/O (io), 64 I/O (io), 65 I/O (io), 66 I/O (io), 67 I/O (io), 68 I/O (io), 69 I/O (io), 70 GND (power), 71 I/O (io), 72 I/O (io), 73 I/O (io), 74 I/O (io), 75 I/O (io), 76 I/O (io), 77 I/O (io), 78 SGCK3-I/O (io), 79 GND (power), 80 DONE (io), 81 VCC (power), 82 ~{PROG} (in), 83 D7-I/O (io), 84 PGCK3-I/O (io), 85 I/O (io), 86 I/O (io), 87 D6-I/O (io), 88 I/O (io), 89 I/O (io), 90 I/O (io), 91 GND (power), 92 I/O (io), 93 I/O (io), 94 D5-I/O (io), 95 CS0-I/O (io), 96 I/O (io), 97 I/O (io), 98 D4-I/O (io), 99 I/O (io), 100 VCC (power), 101 GND (power), 102 D3-I/O (io), 103 ~{RS}-I/O (io), 104 I/O (io), 105 I/O (io), 106 D2-I/O (io), 107 I/O (io), 108 I/O (io), 109 I/O (io), 110 GND (power), 111 I/O (io), 112 I/O (io), 113 D1-I/O (io), 114 ~{RCLK}-~{BUSY}/RDY-I/O (io), 115 I/O (io), 116 I/O (io), 117 D0-DIN-I/O (io), 118 SGCK4-DOUT-I/O (io), 119 CCLK (io), 120 VCC (power), 121 TDO (out), 122 GND (power), 123 A0-~{WS}-I/O (io), 124 A1-PGCK4-I/O (io), 125 I/O (io), 126 I/O (io), 127 A2-CS1-I/O (io), 128 A3-I/O (io), 129 I/O (io), 130 I/O (io), 131 GND (power), 132 I/O (io), 133 I/O (io), 134 A4-I/O (io), 135 A5-I/O (io), 136 I/O (io), 137 I/O (io), 138 I/O (io), 139 A6-I/O (io), 140 A7-I/O (io), 141 GND (power), 142 VCC (power), 143 A8-I/O (io), 144 A9-I/O (io), 145 I/O (io), 146 I/O (io), 147 A10-I/O (io), 148 A11-I/O (io), 149 I/O (io), 150 I/O (io), 151 GND (power), 152 I/O (io), 153 I/O (io), 154 A12-I/O (io), 155 A13-I/O (io), 156 I/O (io), 157 I/O (io), 158 A14-I/O (io), 159 A15-SGCK1-I/O (io), 160 VCC (power)

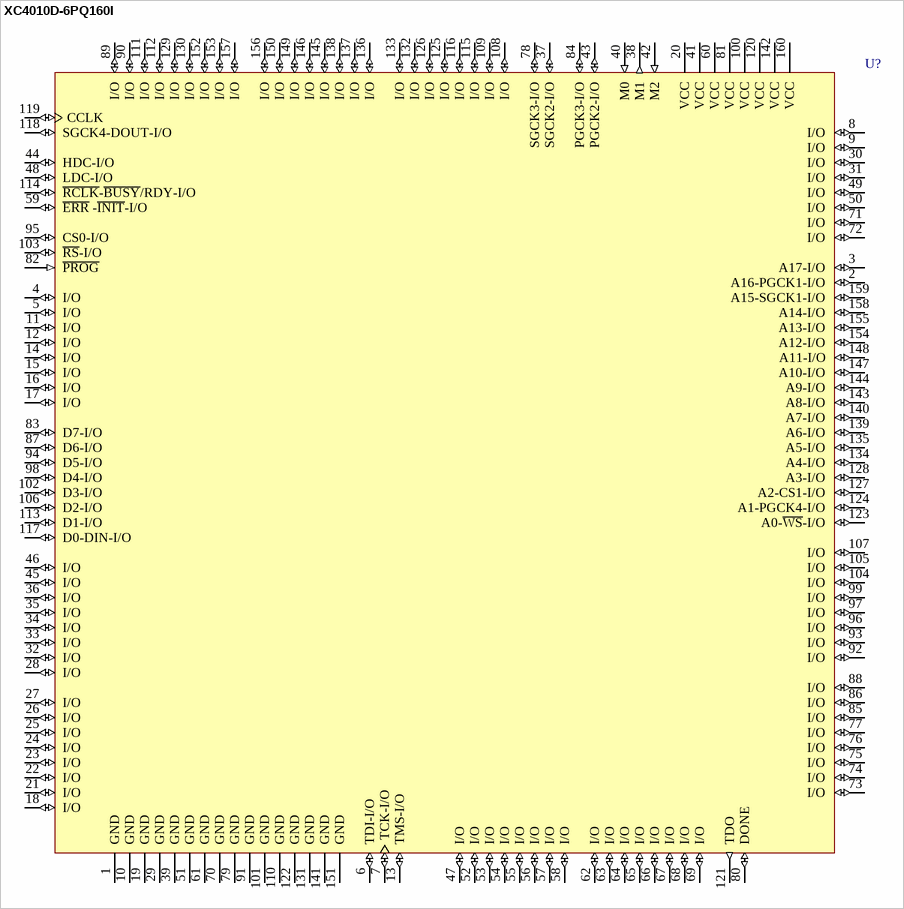
[diagram p142: symbol XC4010D-6PQ160I]

## XC4010D-6PQ160I
designator U?
Logic Cell Array, with 129 I/O Pins, 160-Pin PQFP, Industrial Grade; PackageDocument: ver1.1, Oct-2002; Published: 8-Jun-2000; LatestRevisionDate: 17-Jul-2002; LatestRevisionNote: PCB footprint, 'QFP28x28-G160/D28N' replaced; Re-released for DXP Platform.; DatasheetDocument: 1994; PackageReference: PQ160; Publisher: Altium Limited; Code_JEDEC: MS-022-DD1
footprint PQ160 (160-Pin Plastic Quad Flat Pack (PQ160))
pins: 1 GND (power), 2 A16-PGCK1-I/O (io), 3 A17-I/O (io), 4 I/O (io), 5 I/O (io), 6 TDI-I/O (io), 7 TCK-I/O (io), 8 I/O (io), 9 I/O (io), 10 GND (power), 11 I/O (io), 12 I/O (io), 13 TMS-I/O (io), 14 I/O (io), 15 I/O (io), 16 I/O (io), 17 I/O (io), 18 I/O (io), 19 GND (power), 20 VCC (power), 21 I/O (io), 22 I/O (io), 23 I/O (io), 24 I/O (io), 25 I/O (io), 26 I/O (io), 27 I/O (io), 28 I/O (io), 29 GND (power), 30 I/O (io), 31 I/O (io), 32 I/O (io), 33 I/O (io), 34 I/O (io), 35 I/O (io), 36 I/O (io), 37 SGCK2-I/O (io), 38 M1 (out), 39 GND (power), 40 M0 (in), 41 VCC (power), 42 M2 (in), 43 PGCK2-I/O (io), 44 HDC-I/O (io), 45 I/O (io), 46 I/O (io), 47 I/O (io), 48 LDC-I/O (io), 49 I/O (io), 50 I/O (io), 51 GND (power), 52 I/O (io), 53 I/O (io), 54 I/O (io), 55 I/O (io), 56 I/O (io), 57 I/O (io), 58 I/O (io), 59 ~{ERR} -~{INIT}-I/O (io), 60 VCC (power), 61 GND (power), 62 I/O (io), 63 I/O (io), 64 I/O (io), 65 I/O (io), 66 I/O (io), 67 I/O (io), 68 I/O (io), 69 I/O (io), 70 GND (power), 71 I/O (io), 72 I/O (io), 73 I/O (io), 74 I/O (io), 75 I/O (io), 76 I/O (io), 77 I/O (io), 78 SGCK3-I/O (io), 79 GND (power), 80 DONE (io), 81 VCC (power), 82 ~{PROG} (in), 83 D7-I/O (io), 84 PGCK3-I/O (io), 85 I/O (io), 86 I/O (io), 87 D6-I/O (io), 88 I/O (io), 89 I/O (io), 90 I/O (io), 91 GND (power), 92 I/O (io), 93 I/O (io), 94 D5-I/O (io), 95 CS0-I/O (io), 96 I/O (io), 97 I/O (io), 98 D4-I/O (io), 99 I/O (io), 100 VCC (power), 101 GND (power), 102 D3-I/O (io), 103 ~{RS}-I/O (io), 104 I/O (io), 105 I/O (io), 106 D2-I/O (io), 107 I/O (io), 108 I/O (io), 109 I/O (io), 110 GND (power), 111 I/O (io), 112 I/O (io), 113 D1-I/O (io), 114 ~{RCLK}-~{BUSY}/RDY-I/O (io), 115 I/O (io), 116 I/O (io), 117 D0-DIN-I/O (io), 118 SGCK4-DOUT-I/O (io), 119 CCLK (io), 120 VCC (power), 121 TDO (out), 122 GND (power), 123 A0-~{WS}-I/O (io), 124 A1-PGCK4-I/O (io), 125 I/O (io), 126 I/O (io), 127 A2-CS1-I/O (io), 128 A3-I/O (io), 129 I/O (io), 130 I/O (io), 131 GND (power), 132 I/O (io), 133 I/O (io), 134 A4-I/O (io), 135 A5-I/O (io), 136 I/O (io), 137 I/O (io), 138 I/O (io), 139 A6-I/O (io), 140 A7-I/O (io), 141 GND (power), 142 VCC (power), 143 A8-I/O (io), 144 A9-I/O (io), 145 I/O (io), 146 I/O (io), 147 A10-I/O (io), 148 A11-I/O (io), 149 I/O (io), 150 I/O (io), 151 GND (power), 152 I/O (io), 153 I/O (io), 154 A12-I/O (io), 155 A13-I/O (io), 156 I/O (io), 157 I/O (io), 158 A14-I/O (io), 159 A15-SGCK1-I/O (io), 160 VCC (power)

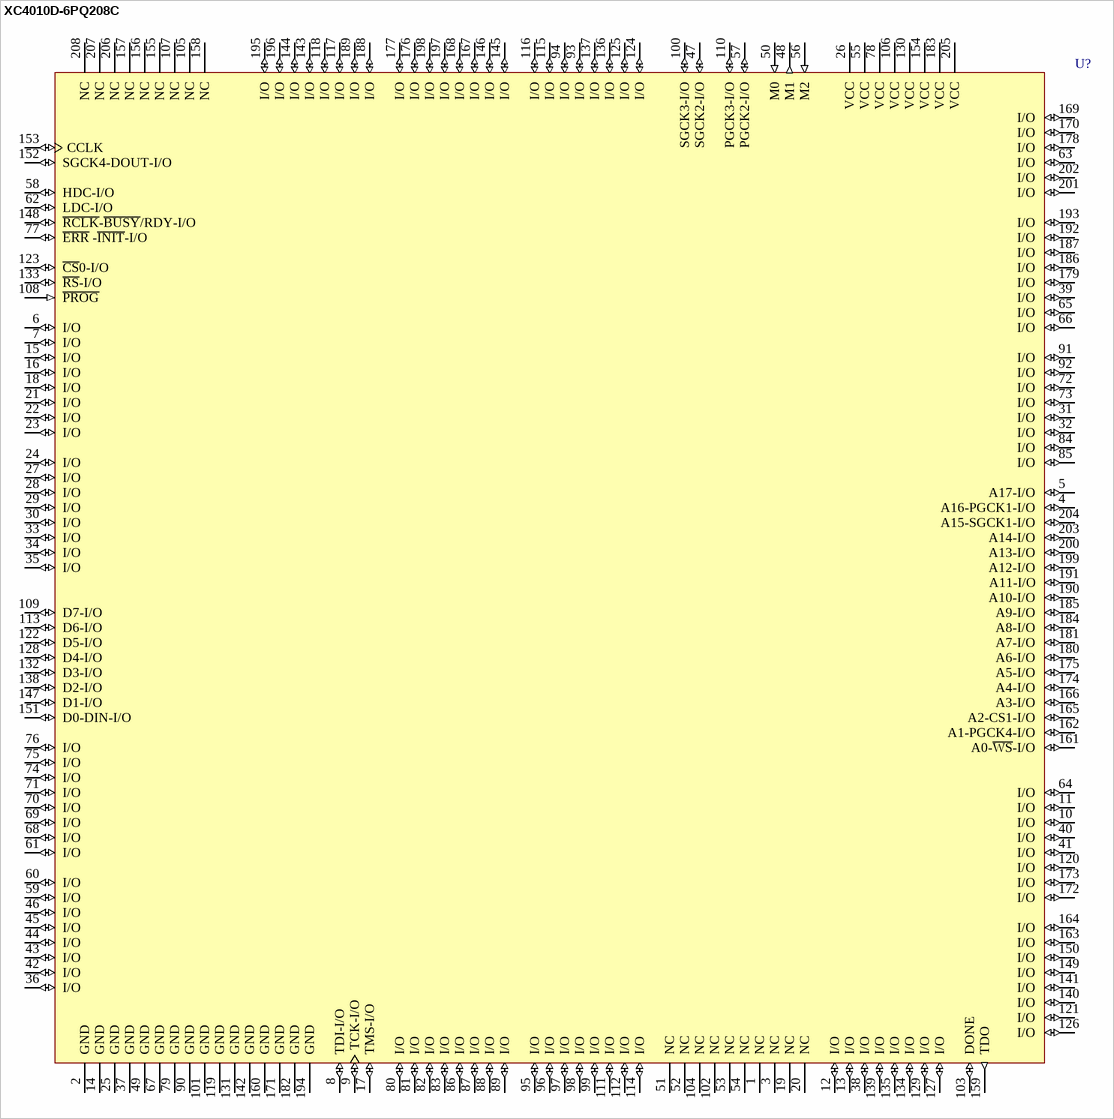
[diagram p143: symbol XC4010D-6PQ208C]